# Altium integrated library Zynq-7000.IntLib: 45 symbols (part 15 of 17)
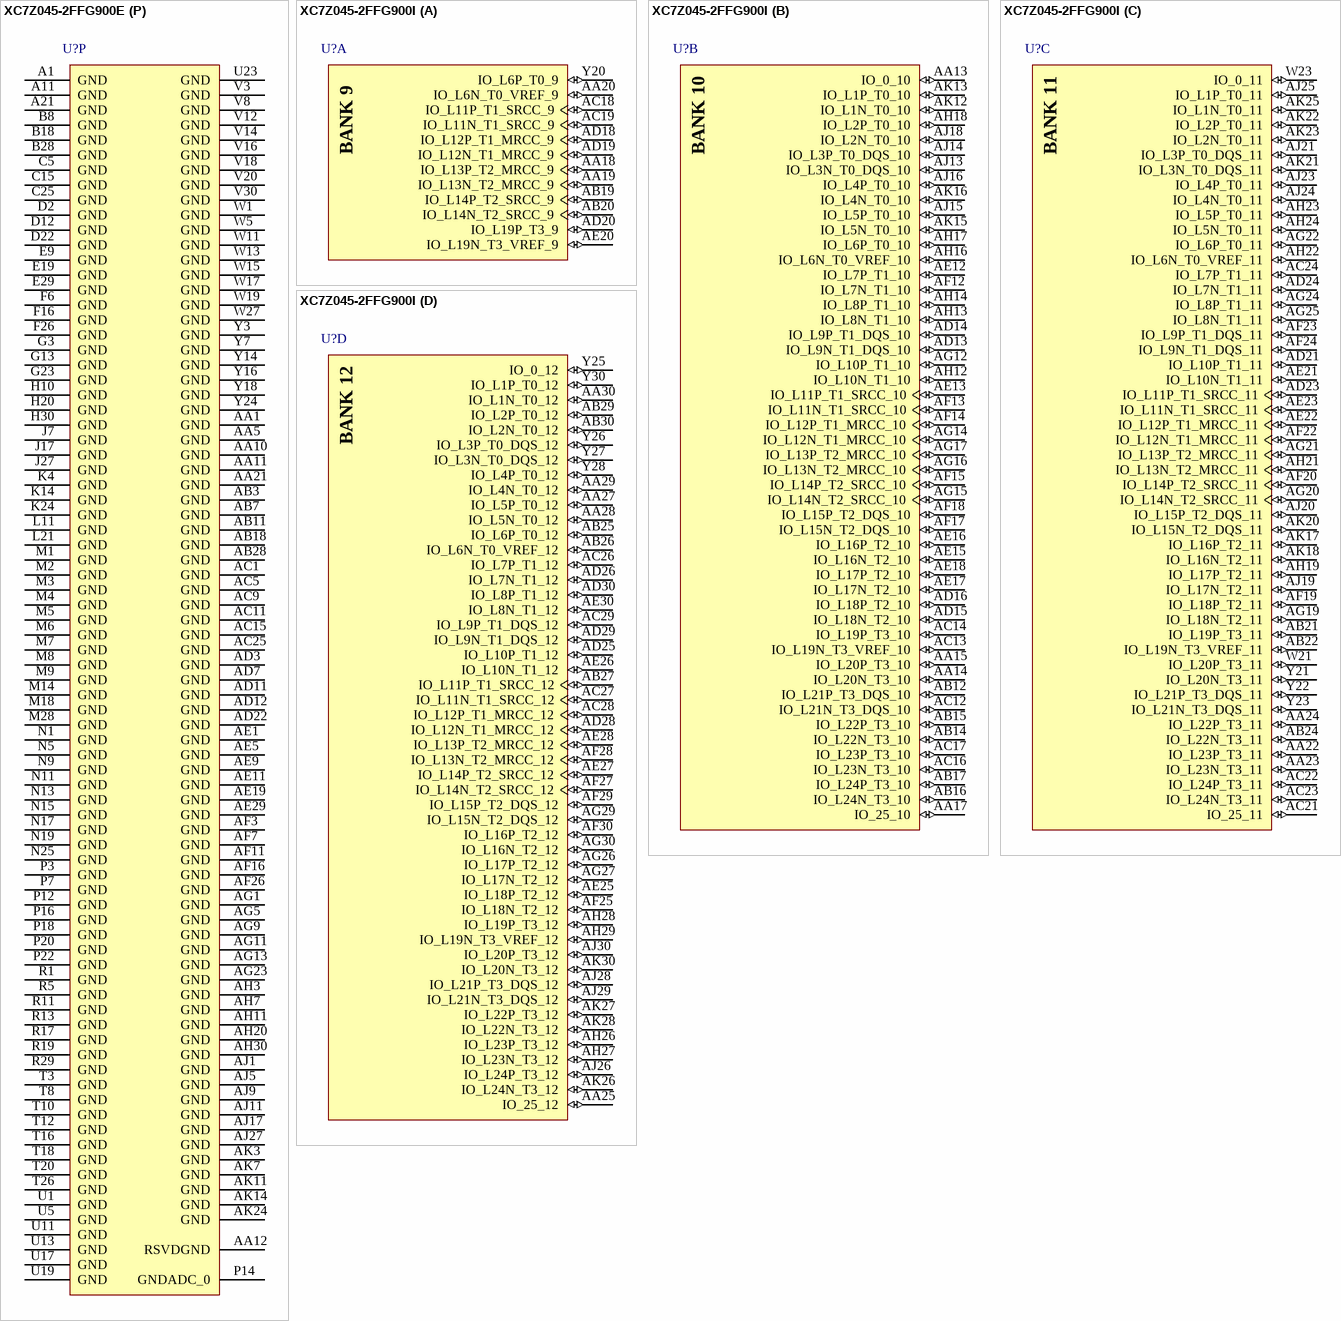
[diagram p109: symbols XC7Z045-2FFG900E to XC7Z045-2FFG900I]

## XC7Z045-2FFG900E
designator U?
733 MHz Zynq™-7000 AP SoC, 130 PS I/O, 378 FPGA I/O, 900-Ball BGA, Speed Grade 2, Extended Grade, Pb-Free; Generic Part Number: XC7Z045; Manufacturer: Xilinx; PartNumber: XC7Z045-2FFG900E; Extensible Block RAM (# 36Kb Blocks): 2180 KB (545); Flip Flops: 437200; LUTs: 218600; Speed Grade: -2; DatasheetVersion: v1.2; PackageVersion: Rev 1.1; PackageReference: FFG900; PackageDescription: Flip-Chip BGA, Body 31 x 31 mm, 1.0 mm Pitch; RoHS: Pb-Free; Mounting Technology: Surface Mount; Code_JEDEC: MS-034-AAN-1; ComponentLink1Description: Datasheet; ComponentLink1URL: http://www.xilinx.com/support/documentation/data_sheets/ds190-Zynq-7000-Overview.pdf; ComponentLink2Description: Package Specification; ComponentLink2URL: http://www.xilinx.com/support/documentation/user_guides/ug865-Zynq-7000-Pkg-Pinout.pdf; ComponentLink3Description: DC and AC Switching Characteristics; ComponentLink3URL: http://www.xilinx.com/support/documentation/data_sheets/ds191-XC7Z030-XC7Z045-data-sheet.pdf; ComponentLink4Description: Package File; ComponentLink4URL: http://www.xilinx.com/support/packagefiles/z7packages/xc7z045ffg900pkg.txt; ComponentLink5Description: Packaging and Pinout; ComponentLink5URL: http://www.xilinx.com/support/documentation/user_guides/ug865-Zynq-7000-Pkg-Pinout.pdf; ComponentLink6Description: PCB and Layout Guide; ComponentLink6URL: http://www.xilinx.com/support/documentation/user_guides/ug483_7Series_PCB.pdf
footprint FFG900 (BGA, 900-Balls, Body 31x31mm, Pitch 1mm)
part A pins: AA18 IO_L13P_T2_MRCC_9 (io), AA19 IO_L13N_T2_MRCC_9 (io), AA20 IO_L6N_T0_VREF_9 (io), AB19 IO_L14P_T2_SRCC_9 (io), AB20 IO_L14N_T2_SRCC_9 (io), AC18 IO_L11P_T1_SRCC_9 (io), AC19 IO_L11N_T1_SRCC_9 (io), AD18 IO_L12P_T1_MRCC_9 (io), AD19 IO_L12N_T1_MRCC_9 (io), AD20 IO_L19P_T3_9 (io), AE20 IO_L19N_T3_VREF_9 (io), Y20 IO_L6P_T0_9 (io)
part B pins: AA13 IO_0_10 (io), AA14 IO_L20N_T3_10 (io), AA15 IO_L20P_T3_10 (io), AA17 IO_25_10 (io), AB12 IO_L21P_T3_DQS_10 (io), AB14 IO_L22N_T3_10 (io), AB15 IO_L22P_T3_10 (io), AB16 IO_L24N_T3_10 (io), AB17 IO_L24P_T3_10 (io), AC12 IO_L21N_T3_DQS_10 (io), AC13 IO_L19N_T3_VREF_10 (io), AC14 IO_L19P_T3_10 (io), AC16 IO_L23N_T3_10 (io), AC17 IO_L23P_T3_10 (io), AD13 IO_L9N_T1_DQS_10 (io), AD14 IO_L9P_T1_DQS_10 (io), AD15 IO_L18N_T2_10 (io), AD16 IO_L18P_T2_10 (io), AE12 IO_L7P_T1_10 (io), AE13 IO_L11P_T1_SRCC_10 (io), AE15 IO_L16N_T2_10 (io), AE16 IO_L16P_T2_10 (io), AE17 IO_L17N_T2_10 (io), AE18 IO_L17P_T2_10 (io), AF12 IO_L7N_T1_10 (io), AF13 IO_L11N_T1_SRCC_10 (io), AF14 IO_L12P_T1_MRCC_10 (io), AF15 IO_L14P_T2_SRCC_10 (io), AF17 IO_L15N_T2_DQS_10 (io), AF18 IO_L15P_T2_DQS_10 (io), AG12 IO_L10P_T1_10 (io), AG14 IO_L12N_T1_MRCC_10 (io), AG15 IO_L14N_T2_SRCC_10 (io), AG16 IO_L13N_T2_MRCC_10 (io), AG17 IO_L13P_T2_MRCC_10 (io), AH12 IO_L10N_T1_10 (io), AH13 IO_L8N_T1_10 (io), AH14 IO_L8P_T1_10 (io), AH16 IO_L6N_T0_VREF_10 (io), AH17 IO_L6P_T0_10 (io), AH18 IO_L2P_T0_10 (io), AJ13 IO_L3N_T0_DQS_10 (io), AJ14 IO_L3P_T0_DQS_10 (io), AJ15 IO_L5P_T0_10 (io), AJ16 IO_L4P_T0_10 (io), AJ18 IO_L2N_T0_10 (io), AK12 IO_L1N_T0_10 (io), AK13 IO_L1P_T0_10 (io), AK15 IO_L5N_T0_10 (io), AK16 IO_L4N_T0_10 (io)
part C pins: AA22 IO_L23P_T3_11 (io), AA23 IO_L23N_T3_11 (io), AA24 IO_L22P_T3_11 (io), AB21 IO_L19P_T3_11 (io), AB22 IO_L19N_T3_VREF_11 (io), AB24 IO_L22N_T3_11 (io), AC21 IO_25_11 (io), AC22 IO_L24P_T3_11 (io), AC23 IO_L24N_T3_11 (io), AC24 IO_L7P_T1_11 (io), AD21 IO_L10P_T1_11 (io), AD23 IO_L11P_T1_SRCC_11 (io), AD24 IO_L7N_T1_11 (io), AE21 IO_L10N_T1_11 (io), AE22 IO_L12P_T1_MRCC_11 (io), AE23 IO_L11N_T1_SRCC_11 (io), AF19 IO_L18P_T2_11 (io), AF20 IO_L14P_T2_SRCC_11 (io), AF22 IO_L12N_T1_MRCC_11 (io), AF23 IO_L9P_T1_DQS_11 (io), AF24 IO_L9N_T1_DQS_11 (io), AG19 IO_L18N_T2_11 (io), AG20 IO_L14N_T2_SRCC_11 (io), AG21 IO_L13P_T2_MRCC_11 (io), AG22 IO_L6P_T0_11 (io), AG24 IO_L8P_T1_11 (io), AG25 IO_L8N_T1_11 (io), AH19 IO_L17P_T2_11 (io), AH21 IO_L13N_T2_MRCC_11 (io), AH22 IO_L6N_T0_VREF_11 (io), AH23 IO_L5P_T0_11 (io), AH24 IO_L5N_T0_11 (io), AJ19 IO_L17N_T2_11 (io), AJ20 IO_L15P_T2_DQS_11 (io), AJ21 IO_L3P_T0_DQS_11 (io), AJ23 IO_L4P_T0_11 (io), AJ24 IO_L4N_T0_11 (io), AJ25 IO_L1P_T0_11 (io), AK17 IO_L16P_T2_11 (io), AK18 IO_L16N_T2_11 (io), AK20 IO_L15N_T2_DQS_11 (io), AK21 IO_L3N_T0_DQS_11 (io), AK22 IO_L2P_T0_11 (io), AK23 IO_L2N_T0_11 (io), AK25 IO_L1N_T0_11 (io), W21 IO_L20P_T3_11 (io), W23 IO_0_11 (io), Y21 IO_L20N_T3_11 (io), Y22 IO_L21P_T3_DQS_11 (io), Y23 IO_L21N_T3_DQS_11 (io)
part D pins: AA25 IO_25_12 (io), AA27 IO_L5P_T0_12 (io), AA28 IO_L5N_T0_12 (io), AA29 IO_L4N_T0_12 (io), AA30 IO_L1N_T0_12 (io), AB25 IO_L6P_T0_12 (io), AB26 IO_L6N_T0_VREF_12 (io), AB27 IO_L11P_T1_SRCC_12 (io), AB29 IO_L2P_T0_12 (io), AB30 IO_L2N_T0_12 (io), AC26 IO_L7P_T1_12 (io), AC27 IO_L11N_T1_SRCC_12 (io), AC28 IO_L12P_T1_MRCC_12 (io), AC29 IO_L9P_T1_DQS_12 (io), AD25 IO_L10P_T1_12 (io), AD26 IO_L7N_T1_12 (io), AD28 IO_L12N_T1_MRCC_12 (io), AD29 IO_L9N_T1_DQS_12 (io), AD30 IO_L8P_T1_12 (io), AE25 IO_L18P_T2_12 (io), AE26 IO_L10N_T1_12 (io), AE27 IO_L14P_T2_SRCC_12 (io), AE28 IO_L13P_T2_MRCC_12 (io), AE30 IO_L8N_T1_12 (io), AF25 IO_L18N_T2_12 (io), AF27 IO_L14N_T2_SRCC_12 (io), AF28 IO_L13N_T2_MRCC_12 (io), AF29 IO_L15P_T2_DQS_12 (io), AF30 IO_L16P_T2_12 (io), AG26 IO_L17P_T2_12 (io), AG27 IO_L17N_T2_12 (io), AG29 IO_L15N_T2_DQS_12 (io), AG30 IO_L16N_T2_12 (io), AH26 IO_L23P_T3_12 (io), AH27 IO_L23N_T3_12 (io), AH28 IO_L19P_T3_12 (io), AH29 IO_L19N_T3_VREF_12 (io), AJ26 IO_L24P_T3_12 (io), AJ28 IO_L21P_T3_DQS_12 (io), AJ29 IO_L21N_T3_DQS_12 (io), AJ30 IO_L20P_T3_12 (io), AK26 IO_L24N_T3_12 (io), AK27 IO_L22P_T3_12 (io), AK28 IO_L22N_T3_12 (io), AK30 IO_L20N_T3_12 (io), Y25 IO_0_12 (io), Y26 IO_L3P_T0_DQS_12 (io), Y27 IO_L3N_T0_DQS_12 (io), Y28 IO_L4P_T0_12 (io), Y30 IO_L1P_T0_12 (io)
part E pins: N26 IO_L15P_T2_DQS_13 (io), N27 IO_L15N_T2_DQS_13 (io), N28 IO_L3P_T0_DQS_13 (io), N29 IO_L4P_T0_13 (io), P21 IO_L19P_T3_13 (io), P23 IO_L18P_T2_13 (io), P24 IO_L18N_T2_13 (io), P25 IO_L16P_T2_13 (io), P26 IO_L16N_T2_13 (io), P28 IO_L3N_T0_DQS_13 (io), P29 IO_L4N_T0_13 (io), P30 IO_L1P_T0_13 (io), R21 IO_L19N_T3_VREF_13 (io), R22 IO_L21P_T3_DQS_13 (io), R23 IO_L21N_T3_DQS_13 (io), R25 IO_L13P_T2_MRCC_13 (io), R26 IO_L13N_T2_MRCC_13 (io), R27 IO_L14P_T2_SRCC_13 (io), R28 IO_L6P_T0_13 (io), R30 IO_L1N_T0_13 (io), T22 IO_L20P_T3_13 (io), T23 IO_L20N_T3_13 (io), T24 IO_L17P_T2_13 (io), T25 IO_L17N_T2_13 (io), T27 IO_L14N_T2_SRCC_13 (io), T28 IO_L6N_T0_VREF_13 (io), T29 IO_L5P_T0_13 (io), T30 IO_L2P_T0_13 (io), U21 IO_0_13 (io), U22 IO_L22P_T3_13 (io), U24 IO_L23P_T3_13 (io), U25 IO_L11P_T1_SRCC_13 (io), U26 IO_L12P_T1_MRCC_13 (io), U27 IO_L12N_T1_MRCC_13 (io), U29 IO_L5N_T0_13 (io), U30 IO_L2N_T0_13 (io), V21 IO_25_13 (io), V22 IO_L22N_T3_13 (io), V23 IO_L24P_T3_13 (io), V24 IO_L23N_T3_13 (io), V26 IO_L11N_T1_SRCC_13 (io), V27 IO_L9P_T1_DQS_13 (io), V28 IO_L7P_T1_13 (io), V29 IO_L7N_T1_13 (io), W24 IO_L24N_T3_13 (io), W25 IO_L10P_T1_13 (io), W26 IO_L10N_T1_13 (io), W28 IO_L9N_T1_DQS_13 (io), W29 IO_L8P_T1_13 (io), W30 IO_L8N_T1_13 (io)
part F pins: A2 IO_L24N_T3_33 (io), A3 IO_L24P_T3_33 (io), A4 IO_L21N_T3_DQS_33 (io), A5 IO_L21P_T3_DQS_33 (io), B1 IO_L23N_T3_33 (io), B2 IO_L23P_T3_33 (io), B4 IO_L20N_T3_33 (io), B5 IO_L20P_T3_33 (io), C1 IO_L22N_T3_33 (io), C2 IO_L22P_T3_33 (io), C3 IO_L19N_T3_VREF_33 (io), C4 IO_L19P_T3_33 (io), D1 IO_L18N_T2_33 (io), D3 IO_L16N_T2_33 (io), D4 IO_L16P_T2_33 (io), D5 IO_L15N_T2_DQS_33 (io), E1 IO_L18P_T2_33 (io), E2 IO_L17N_T2_33 (io), E3 IO_L17P_T2_33 (io), E5 IO_L13N_T2_MRCC_33 (io), E6 IO_L15P_T2_DQS_33 (io), F2 IO_L7N_T1_33 (io), F3 IO_L14N_T2_SRCC_33 (io), F4 IO_L14P_T2_SRCC_33 (io), F5 IO_L13P_T2_MRCC_33 (io), G1 IO_L10N_T1_33 (io), G2 IO_L7P_T1_33 (io), G4 IO_L12N_T1_MRCC_33 (io), G5 IO_L12P_T1_MRCC_33 (io), G6 IO_L8N_T1_33 (io), H1 IO_L9N_T1_DQS_33 (io), H2 IO_L10P_T1_33 (io), H3 IO_L11N_T1_SRCC_33 (io), H4 IO_L11P_T1_SRCC_33 (io), H6 IO_L8P_T1_33 (io), J1 IO_L9P_T1_DQS_33 (io), J3 IO_L1N_T0_33 (io), J4 IO_L1P_T0_33 (io), J5 IO_L5N_T0_33 (io), J6 IO_L6N_T0_VREF_33 (io), K1 IO_L2N_T0_33 (io), K2 IO_L3N_T0_DQS_33 (io), K3 IO_L3P_T0_DQS_33 (io), K5 IO_L5P_T0_33 (io), K6 IO_L6P_T0_33 (io), L1 IO_L2P_T0_33 (io), L2 IO_L4N_T0_33 (io), L3 IO_L4P_T0_33 (io), L4 IO_25_VRP_33 (io), L5 IO_0_VRN_33 (io)
part G pins: A7 IO_L3N_T0_DQS_34 (io), A8 IO_L3P_T0_DQS_PUDC_B_34 (io), A9 IO_L2N_T0_34 (io), A10 IO_L1N_T0_34 (io), B6 IO_L5N_T0_34 (io), B7 IO_L4N_T0_34 (io), B9 IO_L2P_T0_34 (io), B10 IO_L1P_T0_34 (io), C6 IO_L5P_T0_34 (io), C7 IO_L4P_T0_34 (io), C8 IO_L6N_T0_VREF_34 (io), C9 IO_L6P_T0_34 (io), D6 IO_L17N_T2_34 (io), D8 IO_L12N_T1_MRCC_34 (io), D9 IO_L12P_T1_MRCC_34 (io), D10 IO_L10N_T1_34 (io), D11 IO_L8N_T1_34 (io), E7 IO_L17P_T2_34 (io), E8 IO_L14N_T2_SRCC_34 (io), E10 IO_L10P_T1_34 (io), E11 IO_L8P_T1_34 (io), F7 IO_L16N_T2_34 (io), F8 IO_L16P_T2_34 (io), F9 IO_L14P_T2_SRCC_34 (io), F10 IO_L11N_T1_SRCC_34 (io), G7 IO_L18N_T2_34 (io), G9 IO_L13N_T2_MRCC_34 (io), G10 IO_L11P_T1_SRCC_34 (io), G11 IO_L9N_T1_DQS_34 (io), H7 IO_L18P_T2_34 (io), H8 IO_L15N_T2_DQS_34 (io), H9 IO_L13P_T2_MRCC_34 (io), H11 IO_L7N_T1_34 (io), H12 IO_L9P_T1_DQS_34 (io), J8 IO_L15P_T2_DQS_34 (io), J9 IO_L20N_T3_34 (io), J10 IO_L20P_T3_34 (io), J11 IO_L7P_T1_34 (io), K7 IO_L19N_T3_VREF_34 (io), K8 IO_L21N_T3_DQS_34 (io), K10 IO_L22N_T3_34 (io), K11 IO_L22P_T3_34 (io), K12 IO_L24N_T3_34 (io), L7 IO_L19P_T3_34 (io), L8 IO_L21P_T3_DQS_34 (io), L9 IO_L23N_T3_34 (io), L10 IO_L23P_T3_34 (io), L12 IO_L24P_T3_34 (io), M10 IO_25_VRP_34 (io), M12 IO_0_VRN_34 (io)
part H pins: A12 IO_L24N_T3_AD15N_35 (io), A13 IO_L24P_T3_AD15P_35 (io), A14 IO_L23N_T3_35 (io), A15 IO_L21N_T3_DQS_AD14N_35 (io), A17 IO_L18N_T2_AD13N_35 (io), B11 IO_L22N_T3_AD7N_35 (io), B12 IO_L20N_T3_AD6N_35 (io), B14 IO_L23P_T3_35 (io), B15 IO_L21P_T3_DQS_AD14P_35 (io), B16 IO_L17N_T2_AD5N_35 (io), B17 IO_L18P_T2_AD13P_35 (io), C11 IO_L22P_T3_AD7P_35 (io), C12 IO_L20P_T3_AD6P_35 (io), C13 IO_L19N_T3_VREF_35 (io), C14 IO_L19P_T3_35 (io), C16 IO_L16N_T2_35 (io), C17 IO_L17P_T2_AD5P_35 (io), D13 IO_L11N_T1_SRCC_35 (io), D14 IO_L14N_T2_AD4N_SRCC_35 (io), D15 IO_L14P_T2_AD4P_SRCC_35 (io), D16 IO_L16P_T2_35 (io), E12 IO_L10N_T1_AD11N_35 (io), E13 IO_L11P_T1_SRCC_35 (io), E15 IO_L13N_T2_MRCC_35 (io), E16 IO_L13P_T2_MRCC_35 (io), E17 IO_L15N_T2_DQS_AD12N_35 (io), F12 IO_L9N_T1_DQS_AD3N_35 (io), F13 IO_L10P_T1_AD11P_35 (io), F14 IO_L12N_T1_MRCC_35 (io), F15 IO_L12P_T1_MRCC_35 (io), F17 IO_L15P_T2_DQS_AD12P_35 (io), G12 IO_L9P_T1_DQS_AD3P_35 (io), G14 IO_L8N_T1_AD10N_35 (io), G15 IO_L8P_T1_AD10P_35 (io), G16 IO_L7N_T1_AD2N_35 (io), G17 IO_L7P_T1_AD2P_35 (io), H13 IO_L2N_T0_AD8N_35 (io), H14 IO_L4N_T0_35 (io), H16 IO_L6N_T0_VREF_35 (io), J13 IO_L2P_T0_AD8P_35 (io), J14 IO_L4P_T0_35 (io), J15 IO_L5N_T0_AD9N_35 (io), J16 IO_L6P_T0_35 (io), K13 IO_L3N_T0_DQS_AD1N_35 (io), K15 IO_L5P_T0_AD9P_35 (io), K16 IO_0_VRN_35 (io), L13 IO_L3P_T0_DQS_AD1P_35 (io), L14 IO_L1N_T0_AD0N_35 (io), L15 IO_L1P_T0_AD0P_35 (io), M16 IO_25_VRP_35 (io)
part I pins: AA9 DONE_0 (io), P10 TDI_0 (in), R14 VREFN_0 (in), R15 VP_0 (in), T14 VN_0 (in), T15 VREFP_0 (in), U14 DXN_0 (in), U15 DXP_0 (in), V9 CFGBVS_0 (in), V10 TMS_0 (in), W9 INIT_B_0 (io), Y9 PROGRAM_B_0 (in), Y10 TDO_0 (out), Y12 TCK_0 (in)
part J pins: A18 PS_MIO47_501 (io), A19 PS_MIO50_501 (io), A20 PS_MIO38_501 (io), A22 PS_CLK_500 (in), A23 PS_MIO11_500 (io), A24 PS_MIO9_500 (io), B19 PS_SRST_B_501 (in), B20 PS_MIO40_501 (io), B21 PS_MIO37_501 (io), B22 PS_MIO14_500 (io), B24 PS_MIO7_500 (io), C18 PS_MIO53_501 (io), C19 PS_MIO48_501 (io), C21 PS_MIO8_500 (io), C22 PS_MIO15_500 (io), C23 PS_MIO3_500 (io), C24 PS_MIO5_500 (io), D18 PS_MIO49_501 (io), D19 PS_MIO52_501 (io), D20 PS_MIO42_501 (io), D21 PS_POR_B_500 (in), D23 PS_MIO1_500 (io), D24 PS_MIO6_500 (io), E18 PS_MIO43_501 (io), E20 PS_MIO44_501 (io), E21 PS_MIO12_500 (io), E22 PS_MIO10_500 (io), E23 PS_MIO4_500 (io), F18 PS_MIO39_501 (io), F19 PS_MIO51_501 (io), F20 PS_MIO46_501 (io), F22 PS_MIO13_500 (io), F23 PS_MIO2_500 (io), F24 PS_MIO0_500 (io), G19 PS_MIO25_501 (io), G20 PS_MIO27_501 (io), G21 PS_MIO35_501 (io), G22 PS_MIO33_501 (io), H17 PS_MIO36_501 (io), H18 PS_MIO45_501 (io), H19 PS_MIO_VREF_501 (in), H21 PS_MIO31_501 (io), H22 PS_MIO29_501 (io), J18 PS_MIO41_501 (io), J19 PS_MIO21_501 (io), J20 PS_MIO19_501 (io), J21 PS_MIO23_501 (io), K17 PS_MIO32_501 (io), K18 PS_MIO34_501 (io), K20 PS_MIO18_501 (io), K21 PS_MIO17_501 (io), L17 PS_MIO28_501 (io), L18 PS_MIO30_501 (io), L19 PS_MIO16_501 (io), L20 PS_MIO22_501 (io), M17 PS_MIO26_501 (io), M19 PS_MIO24_501 (io), M20 PS_MIO20_501 (io)
part K pins: A25 PS_DDR_DQ0_502 (io), A27 PS_DDR_DQ9_502 (io), A28 PS_DDR_DQ11_502 (io), A29 PS_DDR_DQ8_502 (io), A30 PS_DDR_DQ10_502 (io), B25 PS_DDR_DQ4_502 (io), B26 PS_DDR_DQS_N0_502 (io), B27 PS_DDR_DQ2_502 (io), B29 PS_DDR_DQS_N1_502 (io), B30 PS_DDR_DM1_502 (out), C26 PS_DDR_DQS_P0_502 (io), C27 PS_DDR_DM0_502 (out), C28 PS_DDR_DQ12_502 (io), C29 PS_DDR_DQS_P1_502 (io), D25 PS_DDR_DQ3_502 (io), D26 PS_DDR_DQ6_502 (io), D28 PS_DDR_DQ14_502 (io), D29 PS_DDR_DQ15_502 (io), D30 PS_DDR_DQ13_502 (io), E25 PS_DDR_DQ1_502 (io), E26 PS_DDR_DQ5_502 (io), E27 PS_DDR_DQ7_502 (io), E28 PS_DDR_DQ19_502 (io), E30 PS_DDR_DQ20_502 (io), F25 PS_DDR_DRST_B_502 (out), F27 PS_DDR_A8_502 (out), F28 PS_DDR_DQ21_502 (io), F29 PS_DDR_DQS_N2_502 (io), F30 PS_DDR_DQ23_502 (io), G24 PS_DDR_A5_502 (out), G25 PS_DDR_A3_502 (out), G26 PS_DDR_A10_502 (out), G27 PS_DDR_DQ17_502 (io), G29 PS_DDR_DQS_P2_502 (io), G30 PS_DDR_DQ22_502 (io), H23 PS_DDR_A13_502 (out), H24 PS_DDR_A11_502 (out), H26 PS_DDR_A6_502 (out), H27 PS_DDR_DQ16_502 (io), H28 PS_DDR_DQ18_502 (io), H29 PS_DDR_DM2_502 (out), J23 PS_DDR_A9_502 (out), J24 PS_DDR_A14_502 (out), J25 PS_DDR_CKN_502 (out), J26 PS_DDR_A4_502 (out), J28 PS_DDR_DQ27_502 (io), J29 PS_DDR_DQ24_502 (io), J30 PS_DDR_DQ26_502 (io), K22 PS_DDR_A7_502 (out), K23 PS_DDR_A12_502 (out), K25 PS_DDR_CKP_502 (out), K26 PS_DDR_A1_502 (out), K27 PS_DDR_DQ25_502 (io), K28 PS_DDR_DM3_502 (out), K30 PS_DDR_DQ28_502 (io), L22 PS_DDR_VREF0_502 (in), L23 PS_DDR_ODT_502 (out), L24 PS_DDR_VREF1_502 (in), L25 PS_DDR_A0_502 (out), L27 PS_DDR_A2_502 (out), L28 PS_DDR_DQS_P3_502 (io), L29 PS_DDR_DQS_N3_502 (io), L30 PS_DDR_DQ30_502 (io), M21 PS_DDR_VRP_502 (out), M22 PS_DDR_CKE_502 (out), M24 PS_DDR_CAS_B_502 (out), M25 PS_DDR_BA2_502 (out), M26 PS_DDR_BA1_502 (out), M27 PS_DDR_BA0_502 (out), M29 PS_DDR_DQ29_502 (io), M30 PS_DDR_DQ31_502 (io), N21 PS_DDR_VRN_502 (out), N22 PS_DDR_CS_B_502 (out), N23 PS_DDR_WE_B_502 (out), N24 PS_DDR_RAS_B_502 (out)
part L pins: AA3 MGTXRXN3_111 (in), AA4 MGTXRXP3_111 (in), AA7 MGTREFCLK0N_110 (in), AA8 MGTREFCLK0P_110 (in), AB1 MGTXTXN0_111 (out), AB2 MGTXTXP0_111 (out), AB5 MGTXRXN1_111 (in), AB6 MGTXRXP1_111 (in), AB9 MGTRREF_112 (in), AB10 MGTAVTTRCAL_112, AC3 MGTXRXN0_111 (in), AC4 MGTXRXP0_111 (in), AC7 MGTREFCLK1N_110 (in), AC8 MGTREFCLK1P_110 (in), AD1 MGTXTXN3_110 (out), AD2 MGTXTXP3_110 (out), AD5 MGTXRXN3_110 (in), AD6 MGTXRXP3_110 (in), AD9 MGTREFCLK0N_109 (in), AD10 MGTREFCLK0P_109 (in), AE3 MGTXTXN2_110 (out), AE4 MGTXTXP2_110 (out), AE7 MGTXRXN3_109 (in), AE8 MGTXRXP3_109 (in), AF1 MGTXTXN1_110 (out), AF2 MGTXTXP1_110 (out), AF5 MGTXRXN2_110 (in), AF6 MGTXRXP2_110 (in), AF9 MGTREFCLK1N_109 (in), AF10 MGTREFCLK1P_109 (in), AG3 MGTXRXN1_110 (in), AG4 MGTXRXP1_110 (in), AG7 MGTXRXN2_109 (in), AG8 MGTXRXP2_109 (in), AH1 MGTXTXN0_110 (out), AH2 MGTXTXP0_110 (out), AH5 MGTXRXN0_110 (in), AH6 MGTXRXP0_110 (in), AH9 MGTXRXN0_109 (in), AH10 MGTXRXP0_109 (in), AJ3 MGTXTXN2_109 (out), AJ4 MGTXTXP2_109 (out), AJ7 MGTXRXN1_109 (in), AJ8 MGTXRXP1_109 (in), AK1 MGTXTXN3_109 (out), AK2 MGTXTXP3_109 (out), AK5 MGTXTXN1_109 (out), AK6 MGTXTXP1_109 (out), AK9 MGTXTXN0_109 (out), AK10 MGTXTXP0_109 (out), N3 MGTXTXN3_112 (out), N4 MGTXTXP3_112 (out), N7 MGTREFCLK0N_112 (in), N8 MGTREFCLK0P_112 (in), P1 MGTXTXN2_112 (out), P2 MGTXTXP2_112 (out), P5 MGTXRXN3_112 (in), P6 MGTXRXP3_112 (in), R3 MGTXTXN1_112 (out), R4 MGTXTXP1_112 (out), R7 MGTREFCLK1N_112 (in), R8 MGTREFCLK1P_112 (in), T1 MGTXTXN0_112 (out), T2 MGTXTXP0_112 (out), T5 MGTXRXN2_112 (in), T6 MGTXRXP2_112 (in), U3 MGTXRXN1_112 (in), U4 MGTXRXP1_112 (in), U7 MGTREFCLK0N_111 (in), U8 MGTREFCLK0P_111 (in), V1 MGTXTXN3_111 (out), V2 MGTXTXP3_111 (out), V5 MGTXRXN0_112 (in), V6 MGTXRXP0_112 (in), W3 MGTXTXN2_111 (out), W4 MGTXTXP2_111 (out), W7 MGTREFCLK1N_111 (in), W8 MGTREFCLK1P_111 (in), Y1 MGTXTXN1_111 (out), Y2 MGTXTXP1_111 (out), Y5 MGTXRXN2_111 (in), Y6 MGTXRXP2_111 (in)
part M pins: AA2 MGTAVTT (power), AA6 MGTAVCC (power), AB4 MGTAVTT (power), AB8 MGTAVCC (power), AC2 MGTAVTT (power), AC6 MGTAVCC (power), AC10 MGTAVCC (power), AD4 MGTAVTT (power), AD8 MGTAVCC (power), AE2 MGTAVTT (power), AE6 MGTAVCC (power), AE10 MGTAVCC (power), AF4 MGTAVTT (power), AF8 MGTAVCC (power), AG2 MGTAVTT (power), AG6 MGTAVTT (power), AG10 MGTAVCC (power), AH4 MGTAVTT (power), AH8 MGTAVCC (power), AJ2 MGTAVTT (power), AJ6 MGTAVTT (power), AJ10 MGTAVCC (power), AK4 MGTAVTT (power), AK8 MGTAVTT (power), N2 MGTAVTT (power), N6 MGTAVCC (power), P4 MGTAVTT (power), P8 MGTAVCC (power), R2 MGTAVTT (power), R6 MGTAVCC (power), T4 MGTAVTT (power), T7 MGTVCCAUX (power), U2 MGTAVTT (power), U6 MGTAVCC (power), V4 MGTAVTT (power), V7 MGTVCCAUX (power), W2 MGTAVTT (power), W6 MGTAVCC (power), Y4 MGTAVTT (power), Y8 MGTAVCC (power)
part N pins: A6 VCCO_34 (power), A16 VCCO_35 (power), AA16 VCCO_10 (power), AA26 VCCO_12 (power), AB13 VCCO_10 (power), AB23 VCCO_11 (power), AC20 VCCO_9 (power), AC30 VCCO_12 (power), AD17 VCCO_10 (power), AD27 VCCO_12 (power), AE14 VCCO_10 (power), AE24 VCCO_11 (power), AF21 VCCO_11 (power), AG18 VCCO_10 (power), AG28 VCCO_12 (power), AH15 VCCO_10 (power), AH25 VCCO_11 (power), AJ12 VCCO_10 (power), AJ22 VCCO_11 (power), AK19 VCCO_11 (power), AK29 VCCO_12 (power), B3 VCCO_33 (power), B13 VCCO_35 (power), C10 VCCO_34 (power), D7 VCCO_34 (power), D17 VCCO_35 (power), E4 VCCO_33 (power), E14 VCCO_35 (power), F1 VCCO_33 (power), F11 VCCO_34 (power), G8 VCCO_34 (power), H5 VCCO_33 (power), H15 VCCO_35 (power), J2 VCCO_33 (power), J12 VCCO_34 (power), K9 VCCO_34 (power), L6 VCCO_33 (power), L16 VCCO_35 (power), N30 VCCO_13 (power), P27 VCCO_13 (power), R9 RSVDVCC3 (power), R24 VCCO_13 (power), T9 RSVDVCC2 (power), T21 VCCO_13 (power), U9 RSVDVCC1 (power), U28 VCCO_13 (power), V25 VCCO_13 (power), W22 VCCO_11 (power), Y13 VCCO_0 (power), Y15 VCCO_0 (power), Y19 VCCO_9 (power), Y29 VCCO_12 (power)
part O pins: A26 VCCO_DDR_502 (power), B23 VCCO_MIO0_500 (power), C20 VCCO_MIO1_501 (power), C30 VCCO_DDR_502 (power), D27 VCCO_DDR_502 (power), E24 VCCO_MIO0_500 (power), F21 VCCO_MIO0_500 (power), G18 VCCO_MIO1_501 (power), G28 VCCO_DDR_502 (power), H25 VCCO_DDR_502 (power), J22 VCCO_MIO1_501 (power), K19 VCCO_MIO1_501 (power), K29 VCCO_DDR_502 (power), L26 VCCO_DDR_502 (power), M11 VCCAUX (power), M13 VCCINT (power), M15 VCCINT (power), M23 VCCO_DDR_502 (power), N10 VCCAUX (power), N12 VCCINT (power), N14 VCCINT (power), N16 VCCPINT (power), N18 VCCPLL (power), N20 VCCPAUX (power), P9 VCCBATT_0 (power), P11 VCCAUX_IO_G0 (power), P13 VCCINT (power), P15 VCCADC_0 (power), P17 VCCPINT (power), P19 VCCPAUX (power), R10 VCCAUX (power), R12 VCCINT (power), R16 VCCINT (power), R18 VCCPINT (power), R20 VCCPAUX (power), T11 VCCAUX_IO_G0 (power), T13 VCCINT (power), T17 VCCPINT (power), T19 VCCPINT (power), U10 VCCAUX (power), U12 VCCINT (power), U16 VCCINT (power), U18 VCCPINT (power), U20 VCCPAUX (power), V11 VCCAUX_IO_G0 (power), V13 VCCINT (power), V15 VCCINT (power), V17 VCCBRAM (power), V19 VCCBRAM (power), W10 VCCAUX (power), W12 VCCINT (power), W14 VCCINT (power), W16 VCCINT (power), W18 VCCBRAM (power), W20 VCCBRAM (power), Y11 VCCAUX (power), Y17 VCCINT (power)
part P pins: A1 GND (power), A11 GND (power), A21 GND (power), AA1 GND (power), AA5 GND (power), AA10 GND (power), AA11 GND (power), AA12 RSVDGND (power), AA21 GND (power), AB3 GND (power), AB7 GND (power), AB11 GND (power), AB18 GND (power), AB28 GND (power), AC1 GND (power), AC5 GND (power), AC9 GND (power), AC11 GND (power), AC15 GND (power), AC25 GND (power), AD3 GND (power), AD7 GND (power), AD11 GND (power), AD12 GND (power), AD22 GND (power), AE1 GND (power), AE5 GND (power), AE9 GND (power), AE11 GND (power), AE19 GND (power), AE29 GND (power), AF3 GND (power), AF7 GND (power), AF11 GND (power), AF16 GND (power), AF26 GND (power), AG1 GND (power), AG5 GND (power), AG9 GND (power), AG11 GND (power), AG13 GND (power), AG23 GND (power), AH3 GND (power), AH7 GND (power), AH11 GND (power), AH20 GND (power), AH30 GND (power), AJ1 GND (power), AJ5 GND (power), AJ9 GND (power), AJ11 GND (power), AJ17 GND (power), AJ27 GND (power), AK3 GND (power), AK7 GND (power), AK11 GND (power), AK14 GND (power), AK24 GND (power), B8 GND (power), B18 GND (power), B28 GND (power), C5 GND (power), C15 GND (power), C25 GND (power), D2 GND (power), D12 GND (power), D22 GND (power), E9 GND (power), E19 GND (power), E29 GND (power), F6 GND (power), F16 GND (power), F26 GND (power), G3 GND (power), G13 GND (power), G23 GND (power), H10 GND (power), H20 GND (power), H30 GND (power), J7 GND (power), J17 GND (power), J27 GND (power), K4 GND (power), K14 GND (power), K24 GND (power), L11 GND (power), L21 GND (power), M1 GND (power), M2 GND (power), M3 GND (power), M4 GND (power), M5 GND (power), M6 GND (power), M7 GND (power), M8 GND (power), M9 GND (power), M14 GND (power), M18 GND (power), M28 GND (power), N1 GND (power), N5 GND (power), N9 GND (power), N11 GND (power), N13 GND (power), N15 GND (power), N17 GND (power), N19 GND (power), N25 GND (power), P3 GND (power), P7 GND (power), P12 GND (power), P14 GNDADC_0 (power), P16 GND (power), P18 GND (power), P20 GND (power), P22 GND (power), R1 GND (power), R5 GND (power), R11 GND (power), R13 GND (power), R17 GND (power), R19 GND (power), R29 GND (power), T3 GND (power), T8 GND (power), T10 GND (power), T12 GND (power), T16 GND (power), T18 GND (power), T20 GND (power), T26 GND (power), U1 GND (power), U5 GND (power), U11 GND (power), U13 GND (power), U17 GND (power), U19 GND (power), U23 GND (power), V3 GND (power), V8 GND (power), V12 GND (power), V14 GND (power), V16 GND (power), V18 GND (power), V20 GND (power), V30 GND (power), W1 GND (power), W5 GND (power), W11 GND (power), W13 GND (power), W15 GND (power), W17 GND (power), W19 GND (power), W27 GND (power), Y3 GND (power), Y7 GND (power), Y14 GND (power), Y16 GND (power), Y18 GND (power), Y24 GND (power)
part A text: BANK 9
part B text: BANK 10
part C text: BANK 11
part D text: BANK 12
part E text: BANK 13
part F text: BANK 33
part G text: BANK 34
part H text: BANK 35

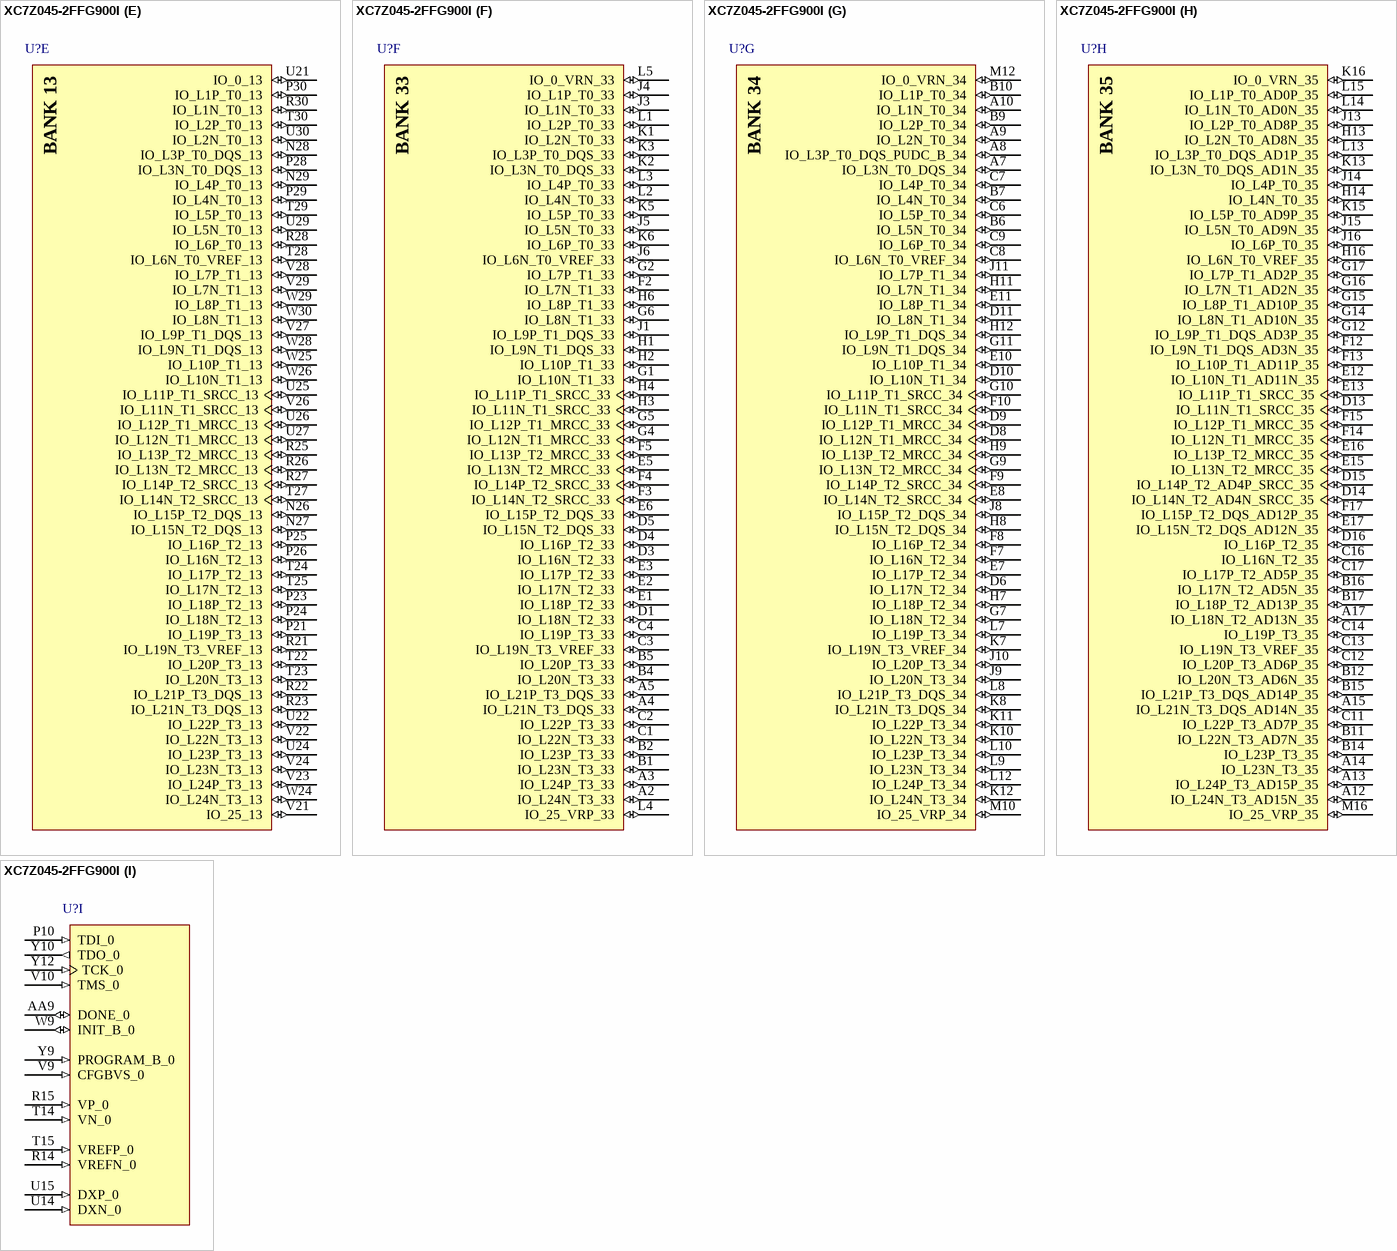
[diagram p85: symbol XC7Z045-2FFG900I]

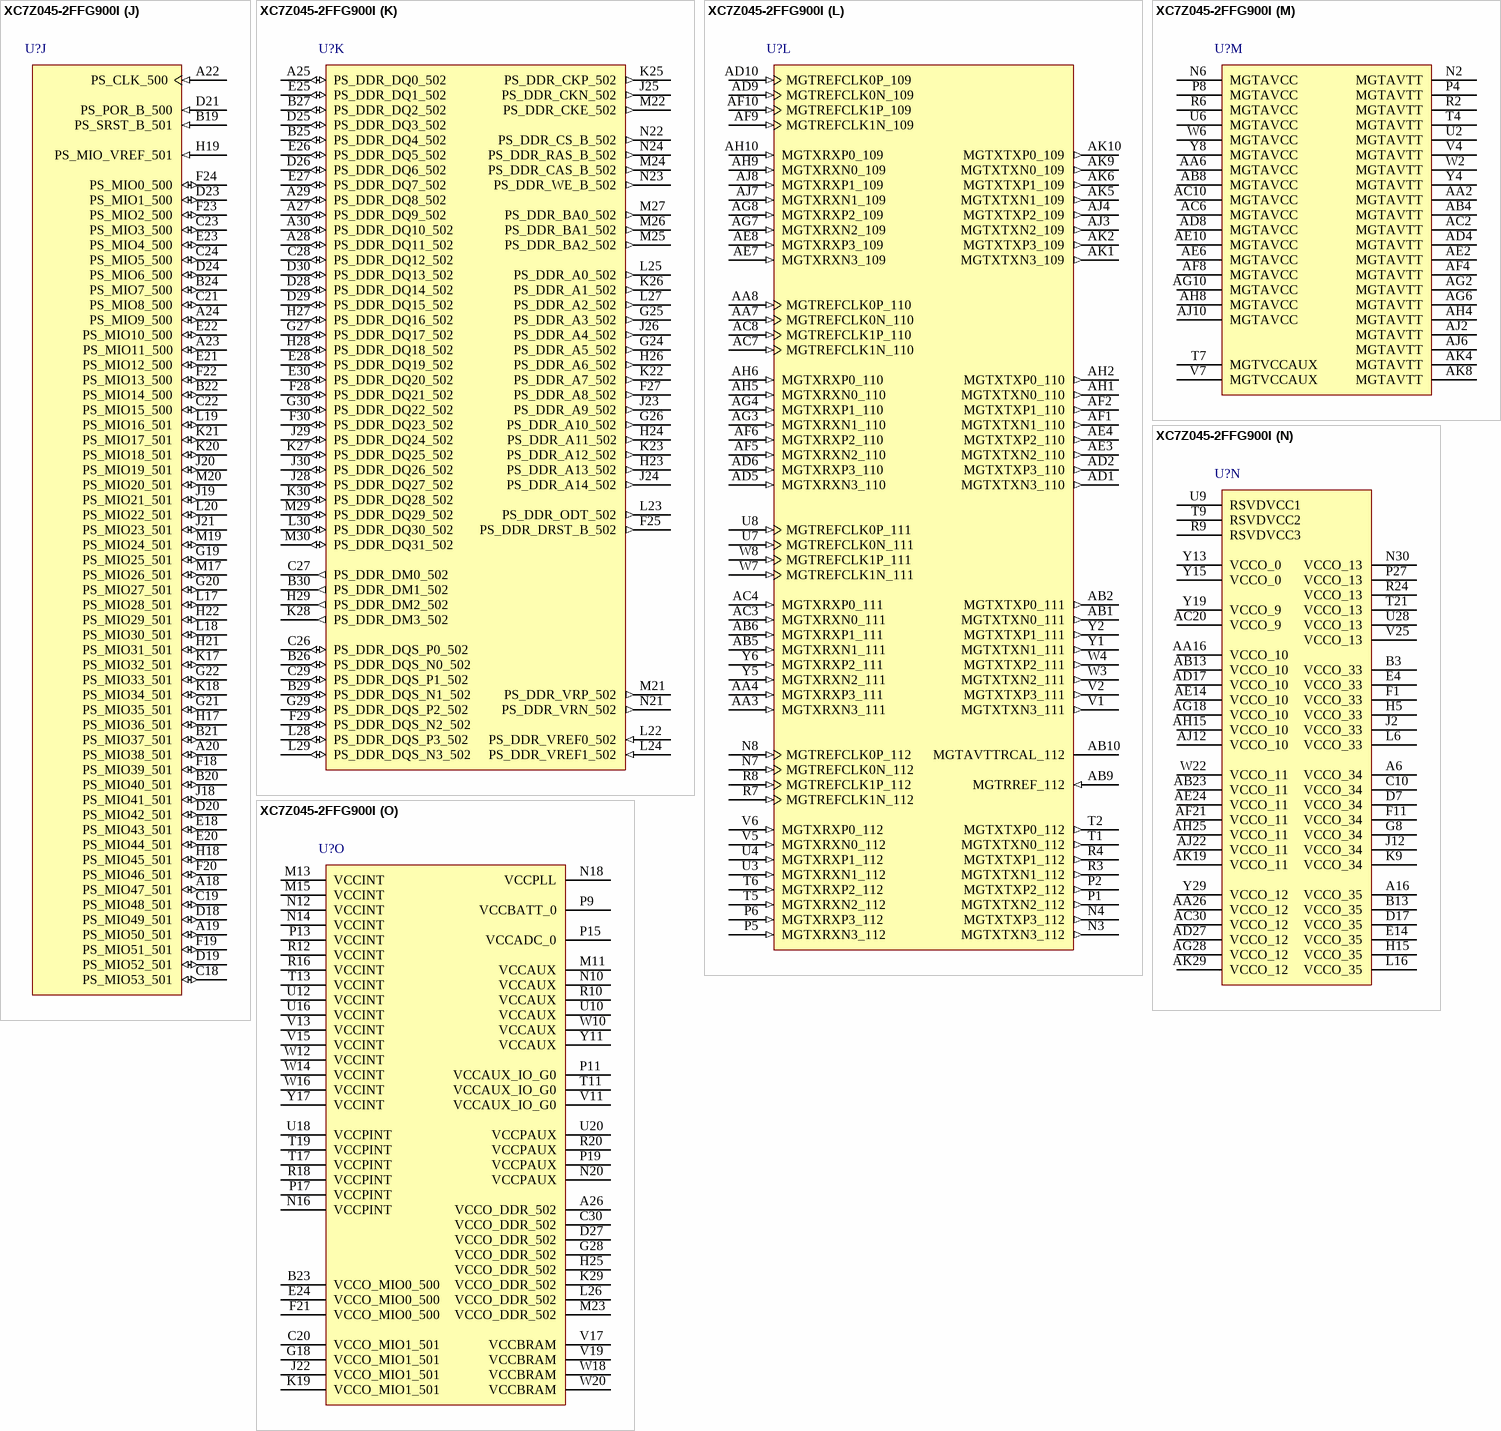
[diagram p86: symbol XC7Z045-2FFG900I]

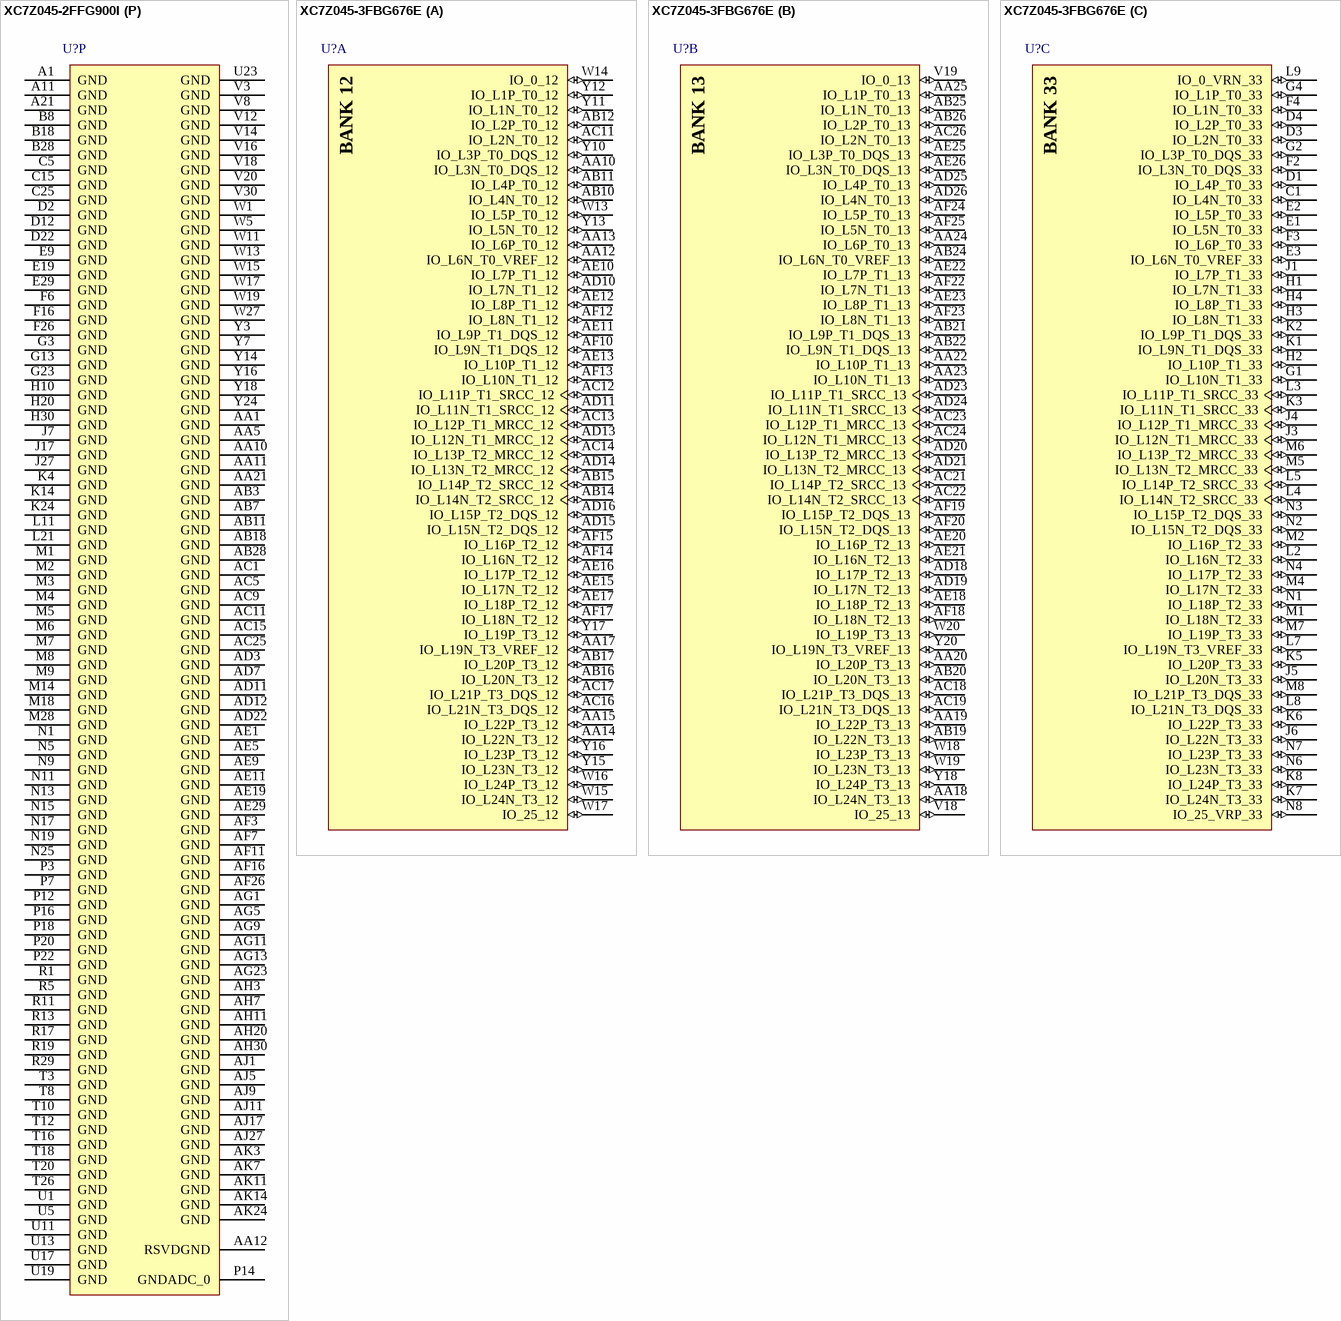
[diagram p87: symbols XC7Z045-2FFG900I to XC7Z045-3FBG676E]

## XC7Z045-2FFG900I
designator U?
733 MHz Zynq™-7000 AP SoC, 130 PS I/O, 378 FPGA I/O, 900-Ball BGA, Speed Grade 2, Industrial Grade, Pb-Free; Generic Part Number: XC7Z045; Manufacturer: Xilinx; PartNumber: XC7Z045-2FFG900I; Extensible Block RAM (# 36Kb Blocks): 2180 KB (545); Flip Flops: 437200; LUTs: 218600; Speed Grade: -2; DatasheetVersion: v1.2; PackageVersion: Rev 1.1; PackageReference: FFG900; PackageDescription: Flip-Chip BGA, Body 31 x 31 mm, 1.0 mm Pitch; RoHS: Pb-Free; Mounting Technology: Surface Mount; Code_JEDEC: MS-034-AAN-1; ComponentLink1Description: Datasheet; ComponentLink1URL: http://www.xilinx.com/support/documentation/data_sheets/ds190-Zynq-7000-Overview.pdf; ComponentLink2Description: Package Specification; ComponentLink2URL: http://www.xilinx.com/support/documentation/user_guides/ug865-Zynq-7000-Pkg-Pinout.pdf; ComponentLink3Description: DC and AC Switching Characteristics; ComponentLink3URL: http://www.xilinx.com/support/documentation/data_sheets/ds191-XC7Z030-XC7Z045-data-sheet.pdf; ComponentLink4Description: Package File; ComponentLink4URL: http://www.xilinx.com/support/packagefiles/z7packages/xc7z045ffg900pkg.txt; ComponentLink5Description: Packaging and Pinout; ComponentLink5URL: http://www.xilinx.com/support/documentation/user_guides/ug865-Zynq-7000-Pkg-Pinout.pdf; ComponentLink6Description: PCB and Layout Guide; ComponentLink6URL: http://www.xilinx.com/support/documentation/user_guides/ug483_7Series_PCB.pdf
footprint FFG900 (BGA, 900-Balls, Body 31x31mm, Pitch 1mm)
part A pins: AA18 IO_L13P_T2_MRCC_9 (io), AA19 IO_L13N_T2_MRCC_9 (io), AA20 IO_L6N_T0_VREF_9 (io), AB19 IO_L14P_T2_SRCC_9 (io), AB20 IO_L14N_T2_SRCC_9 (io), AC18 IO_L11P_T1_SRCC_9 (io), AC19 IO_L11N_T1_SRCC_9 (io), AD18 IO_L12P_T1_MRCC_9 (io), AD19 IO_L12N_T1_MRCC_9 (io), AD20 IO_L19P_T3_9 (io), AE20 IO_L19N_T3_VREF_9 (io), Y20 IO_L6P_T0_9 (io)
part B pins: AA13 IO_0_10 (io), AA14 IO_L20N_T3_10 (io), AA15 IO_L20P_T3_10 (io), AA17 IO_25_10 (io), AB12 IO_L21P_T3_DQS_10 (io), AB14 IO_L22N_T3_10 (io), AB15 IO_L22P_T3_10 (io), AB16 IO_L24N_T3_10 (io), AB17 IO_L24P_T3_10 (io), AC12 IO_L21N_T3_DQS_10 (io), AC13 IO_L19N_T3_VREF_10 (io), AC14 IO_L19P_T3_10 (io), AC16 IO_L23N_T3_10 (io), AC17 IO_L23P_T3_10 (io), AD13 IO_L9N_T1_DQS_10 (io), AD14 IO_L9P_T1_DQS_10 (io), AD15 IO_L18N_T2_10 (io), AD16 IO_L18P_T2_10 (io), AE12 IO_L7P_T1_10 (io), AE13 IO_L11P_T1_SRCC_10 (io), AE15 IO_L16N_T2_10 (io), AE16 IO_L16P_T2_10 (io), AE17 IO_L17N_T2_10 (io), AE18 IO_L17P_T2_10 (io), AF12 IO_L7N_T1_10 (io), AF13 IO_L11N_T1_SRCC_10 (io), AF14 IO_L12P_T1_MRCC_10 (io), AF15 IO_L14P_T2_SRCC_10 (io), AF17 IO_L15N_T2_DQS_10 (io), AF18 IO_L15P_T2_DQS_10 (io), AG12 IO_L10P_T1_10 (io), AG14 IO_L12N_T1_MRCC_10 (io), AG15 IO_L14N_T2_SRCC_10 (io), AG16 IO_L13N_T2_MRCC_10 (io), AG17 IO_L13P_T2_MRCC_10 (io), AH12 IO_L10N_T1_10 (io), AH13 IO_L8N_T1_10 (io), AH14 IO_L8P_T1_10 (io), AH16 IO_L6N_T0_VREF_10 (io), AH17 IO_L6P_T0_10 (io), AH18 IO_L2P_T0_10 (io), AJ13 IO_L3N_T0_DQS_10 (io), AJ14 IO_L3P_T0_DQS_10 (io), AJ15 IO_L5P_T0_10 (io), AJ16 IO_L4P_T0_10 (io), AJ18 IO_L2N_T0_10 (io), AK12 IO_L1N_T0_10 (io), AK13 IO_L1P_T0_10 (io), AK15 IO_L5N_T0_10 (io), AK16 IO_L4N_T0_10 (io)
part C pins: AA22 IO_L23P_T3_11 (io), AA23 IO_L23N_T3_11 (io), AA24 IO_L22P_T3_11 (io), AB21 IO_L19P_T3_11 (io), AB22 IO_L19N_T3_VREF_11 (io), AB24 IO_L22N_T3_11 (io), AC21 IO_25_11 (io), AC22 IO_L24P_T3_11 (io), AC23 IO_L24N_T3_11 (io), AC24 IO_L7P_T1_11 (io), AD21 IO_L10P_T1_11 (io), AD23 IO_L11P_T1_SRCC_11 (io), AD24 IO_L7N_T1_11 (io), AE21 IO_L10N_T1_11 (io), AE22 IO_L12P_T1_MRCC_11 (io), AE23 IO_L11N_T1_SRCC_11 (io), AF19 IO_L18P_T2_11 (io), AF20 IO_L14P_T2_SRCC_11 (io), AF22 IO_L12N_T1_MRCC_11 (io), AF23 IO_L9P_T1_DQS_11 (io), AF24 IO_L9N_T1_DQS_11 (io), AG19 IO_L18N_T2_11 (io), AG20 IO_L14N_T2_SRCC_11 (io), AG21 IO_L13P_T2_MRCC_11 (io), AG22 IO_L6P_T0_11 (io), AG24 IO_L8P_T1_11 (io), AG25 IO_L8N_T1_11 (io), AH19 IO_L17P_T2_11 (io), AH21 IO_L13N_T2_MRCC_11 (io), AH22 IO_L6N_T0_VREF_11 (io), AH23 IO_L5P_T0_11 (io), AH24 IO_L5N_T0_11 (io), AJ19 IO_L17N_T2_11 (io), AJ20 IO_L15P_T2_DQS_11 (io), AJ21 IO_L3P_T0_DQS_11 (io), AJ23 IO_L4P_T0_11 (io), AJ24 IO_L4N_T0_11 (io), AJ25 IO_L1P_T0_11 (io), AK17 IO_L16P_T2_11 (io), AK18 IO_L16N_T2_11 (io), AK20 IO_L15N_T2_DQS_11 (io), AK21 IO_L3N_T0_DQS_11 (io), AK22 IO_L2P_T0_11 (io), AK23 IO_L2N_T0_11 (io), AK25 IO_L1N_T0_11 (io), W21 IO_L20P_T3_11 (io), W23 IO_0_11 (io), Y21 IO_L20N_T3_11 (io), Y22 IO_L21P_T3_DQS_11 (io), Y23 IO_L21N_T3_DQS_11 (io)
part D pins: AA25 IO_25_12 (io), AA27 IO_L5P_T0_12 (io), AA28 IO_L5N_T0_12 (io), AA29 IO_L4N_T0_12 (io), AA30 IO_L1N_T0_12 (io), AB25 IO_L6P_T0_12 (io), AB26 IO_L6N_T0_VREF_12 (io), AB27 IO_L11P_T1_SRCC_12 (io), AB29 IO_L2P_T0_12 (io), AB30 IO_L2N_T0_12 (io), AC26 IO_L7P_T1_12 (io), AC27 IO_L11N_T1_SRCC_12 (io), AC28 IO_L12P_T1_MRCC_12 (io), AC29 IO_L9P_T1_DQS_12 (io), AD25 IO_L10P_T1_12 (io), AD26 IO_L7N_T1_12 (io), AD28 IO_L12N_T1_MRCC_12 (io), AD29 IO_L9N_T1_DQS_12 (io), AD30 IO_L8P_T1_12 (io), AE25 IO_L18P_T2_12 (io), AE26 IO_L10N_T1_12 (io), AE27 IO_L14P_T2_SRCC_12 (io), AE28 IO_L13P_T2_MRCC_12 (io), AE30 IO_L8N_T1_12 (io), AF25 IO_L18N_T2_12 (io), AF27 IO_L14N_T2_SRCC_12 (io), AF28 IO_L13N_T2_MRCC_12 (io), AF29 IO_L15P_T2_DQS_12 (io), AF30 IO_L16P_T2_12 (io), AG26 IO_L17P_T2_12 (io), AG27 IO_L17N_T2_12 (io), AG29 IO_L15N_T2_DQS_12 (io), AG30 IO_L16N_T2_12 (io), AH26 IO_L23P_T3_12 (io), AH27 IO_L23N_T3_12 (io), AH28 IO_L19P_T3_12 (io), AH29 IO_L19N_T3_VREF_12 (io), AJ26 IO_L24P_T3_12 (io), AJ28 IO_L21P_T3_DQS_12 (io), AJ29 IO_L21N_T3_DQS_12 (io), AJ30 IO_L20P_T3_12 (io), AK26 IO_L24N_T3_12 (io), AK27 IO_L22P_T3_12 (io), AK28 IO_L22N_T3_12 (io), AK30 IO_L20N_T3_12 (io), Y25 IO_0_12 (io), Y26 IO_L3P_T0_DQS_12 (io), Y27 IO_L3N_T0_DQS_12 (io), Y28 IO_L4P_T0_12 (io), Y30 IO_L1P_T0_12 (io)
part E pins: N26 IO_L15P_T2_DQS_13 (io), N27 IO_L15N_T2_DQS_13 (io), N28 IO_L3P_T0_DQS_13 (io), N29 IO_L4P_T0_13 (io), P21 IO_L19P_T3_13 (io), P23 IO_L18P_T2_13 (io), P24 IO_L18N_T2_13 (io), P25 IO_L16P_T2_13 (io), P26 IO_L16N_T2_13 (io), P28 IO_L3N_T0_DQS_13 (io), P29 IO_L4N_T0_13 (io), P30 IO_L1P_T0_13 (io), R21 IO_L19N_T3_VREF_13 (io), R22 IO_L21P_T3_DQS_13 (io), R23 IO_L21N_T3_DQS_13 (io), R25 IO_L13P_T2_MRCC_13 (io), R26 IO_L13N_T2_MRCC_13 (io), R27 IO_L14P_T2_SRCC_13 (io), R28 IO_L6P_T0_13 (io), R30 IO_L1N_T0_13 (io), T22 IO_L20P_T3_13 (io), T23 IO_L20N_T3_13 (io), T24 IO_L17P_T2_13 (io), T25 IO_L17N_T2_13 (io), T27 IO_L14N_T2_SRCC_13 (io), T28 IO_L6N_T0_VREF_13 (io), T29 IO_L5P_T0_13 (io), T30 IO_L2P_T0_13 (io), U21 IO_0_13 (io), U22 IO_L22P_T3_13 (io), U24 IO_L23P_T3_13 (io), U25 IO_L11P_T1_SRCC_13 (io), U26 IO_L12P_T1_MRCC_13 (io), U27 IO_L12N_T1_MRCC_13 (io), U29 IO_L5N_T0_13 (io), U30 IO_L2N_T0_13 (io), V21 IO_25_13 (io), V22 IO_L22N_T3_13 (io), V23 IO_L24P_T3_13 (io), V24 IO_L23N_T3_13 (io), V26 IO_L11N_T1_SRCC_13 (io), V27 IO_L9P_T1_DQS_13 (io), V28 IO_L7P_T1_13 (io), V29 IO_L7N_T1_13 (io), W24 IO_L24N_T3_13 (io), W25 IO_L10P_T1_13 (io), W26 IO_L10N_T1_13 (io), W28 IO_L9N_T1_DQS_13 (io), W29 IO_L8P_T1_13 (io), W30 IO_L8N_T1_13 (io)
part F pins: A2 IO_L24N_T3_33 (io), A3 IO_L24P_T3_33 (io), A4 IO_L21N_T3_DQS_33 (io), A5 IO_L21P_T3_DQS_33 (io), B1 IO_L23N_T3_33 (io), B2 IO_L23P_T3_33 (io), B4 IO_L20N_T3_33 (io), B5 IO_L20P_T3_33 (io), C1 IO_L22N_T3_33 (io), C2 IO_L22P_T3_33 (io), C3 IO_L19N_T3_VREF_33 (io), C4 IO_L19P_T3_33 (io), D1 IO_L18N_T2_33 (io), D3 IO_L16N_T2_33 (io), D4 IO_L16P_T2_33 (io), D5 IO_L15N_T2_DQS_33 (io), E1 IO_L18P_T2_33 (io), E2 IO_L17N_T2_33 (io), E3 IO_L17P_T2_33 (io), E5 IO_L13N_T2_MRCC_33 (io), E6 IO_L15P_T2_DQS_33 (io), F2 IO_L7N_T1_33 (io), F3 IO_L14N_T2_SRCC_33 (io), F4 IO_L14P_T2_SRCC_33 (io), F5 IO_L13P_T2_MRCC_33 (io), G1 IO_L10N_T1_33 (io), G2 IO_L7P_T1_33 (io), G4 IO_L12N_T1_MRCC_33 (io), G5 IO_L12P_T1_MRCC_33 (io), G6 IO_L8N_T1_33 (io), H1 IO_L9N_T1_DQS_33 (io), H2 IO_L10P_T1_33 (io), H3 IO_L11N_T1_SRCC_33 (io), H4 IO_L11P_T1_SRCC_33 (io), H6 IO_L8P_T1_33 (io), J1 IO_L9P_T1_DQS_33 (io), J3 IO_L1N_T0_33 (io), J4 IO_L1P_T0_33 (io), J5 IO_L5N_T0_33 (io), J6 IO_L6N_T0_VREF_33 (io), K1 IO_L2N_T0_33 (io), K2 IO_L3N_T0_DQS_33 (io), K3 IO_L3P_T0_DQS_33 (io), K5 IO_L5P_T0_33 (io), K6 IO_L6P_T0_33 (io), L1 IO_L2P_T0_33 (io), L2 IO_L4N_T0_33 (io), L3 IO_L4P_T0_33 (io), L4 IO_25_VRP_33 (io), L5 IO_0_VRN_33 (io)
part G pins: A7 IO_L3N_T0_DQS_34 (io), A8 IO_L3P_T0_DQS_PUDC_B_34 (io), A9 IO_L2N_T0_34 (io), A10 IO_L1N_T0_34 (io), B6 IO_L5N_T0_34 (io), B7 IO_L4N_T0_34 (io), B9 IO_L2P_T0_34 (io), B10 IO_L1P_T0_34 (io), C6 IO_L5P_T0_34 (io), C7 IO_L4P_T0_34 (io), C8 IO_L6N_T0_VREF_34 (io), C9 IO_L6P_T0_34 (io), D6 IO_L17N_T2_34 (io), D8 IO_L12N_T1_MRCC_34 (io), D9 IO_L12P_T1_MRCC_34 (io), D10 IO_L10N_T1_34 (io), D11 IO_L8N_T1_34 (io), E7 IO_L17P_T2_34 (io), E8 IO_L14N_T2_SRCC_34 (io), E10 IO_L10P_T1_34 (io), E11 IO_L8P_T1_34 (io), F7 IO_L16N_T2_34 (io), F8 IO_L16P_T2_34 (io), F9 IO_L14P_T2_SRCC_34 (io), F10 IO_L11N_T1_SRCC_34 (io), G7 IO_L18N_T2_34 (io), G9 IO_L13N_T2_MRCC_34 (io), G10 IO_L11P_T1_SRCC_34 (io), G11 IO_L9N_T1_DQS_34 (io), H7 IO_L18P_T2_34 (io), H8 IO_L15N_T2_DQS_34 (io), H9 IO_L13P_T2_MRCC_34 (io), H11 IO_L7N_T1_34 (io), H12 IO_L9P_T1_DQS_34 (io), J8 IO_L15P_T2_DQS_34 (io), J9 IO_L20N_T3_34 (io), J10 IO_L20P_T3_34 (io), J11 IO_L7P_T1_34 (io), K7 IO_L19N_T3_VREF_34 (io), K8 IO_L21N_T3_DQS_34 (io), K10 IO_L22N_T3_34 (io), K11 IO_L22P_T3_34 (io), K12 IO_L24N_T3_34 (io), L7 IO_L19P_T3_34 (io), L8 IO_L21P_T3_DQS_34 (io), L9 IO_L23N_T3_34 (io), L10 IO_L23P_T3_34 (io), L12 IO_L24P_T3_34 (io), M10 IO_25_VRP_34 (io), M12 IO_0_VRN_34 (io)
part H pins: A12 IO_L24N_T3_AD15N_35 (io), A13 IO_L24P_T3_AD15P_35 (io), A14 IO_L23N_T3_35 (io), A15 IO_L21N_T3_DQS_AD14N_35 (io), A17 IO_L18N_T2_AD13N_35 (io), B11 IO_L22N_T3_AD7N_35 (io), B12 IO_L20N_T3_AD6N_35 (io), B14 IO_L23P_T3_35 (io), B15 IO_L21P_T3_DQS_AD14P_35 (io), B16 IO_L17N_T2_AD5N_35 (io), B17 IO_L18P_T2_AD13P_35 (io), C11 IO_L22P_T3_AD7P_35 (io), C12 IO_L20P_T3_AD6P_35 (io), C13 IO_L19N_T3_VREF_35 (io), C14 IO_L19P_T3_35 (io), C16 IO_L16N_T2_35 (io), C17 IO_L17P_T2_AD5P_35 (io), D13 IO_L11N_T1_SRCC_35 (io), D14 IO_L14N_T2_AD4N_SRCC_35 (io), D15 IO_L14P_T2_AD4P_SRCC_35 (io), D16 IO_L16P_T2_35 (io), E12 IO_L10N_T1_AD11N_35 (io), E13 IO_L11P_T1_SRCC_35 (io), E15 IO_L13N_T2_MRCC_35 (io), E16 IO_L13P_T2_MRCC_35 (io), E17 IO_L15N_T2_DQS_AD12N_35 (io), F12 IO_L9N_T1_DQS_AD3N_35 (io), F13 IO_L10P_T1_AD11P_35 (io), F14 IO_L12N_T1_MRCC_35 (io), F15 IO_L12P_T1_MRCC_35 (io), F17 IO_L15P_T2_DQS_AD12P_35 (io), G12 IO_L9P_T1_DQS_AD3P_35 (io), G14 IO_L8N_T1_AD10N_35 (io), G15 IO_L8P_T1_AD10P_35 (io), G16 IO_L7N_T1_AD2N_35 (io), G17 IO_L7P_T1_AD2P_35 (io), H13 IO_L2N_T0_AD8N_35 (io), H14 IO_L4N_T0_35 (io), H16 IO_L6N_T0_VREF_35 (io), J13 IO_L2P_T0_AD8P_35 (io), J14 IO_L4P_T0_35 (io), J15 IO_L5N_T0_AD9N_35 (io), J16 IO_L6P_T0_35 (io), K13 IO_L3N_T0_DQS_AD1N_35 (io), K15 IO_L5P_T0_AD9P_35 (io), K16 IO_0_VRN_35 (io), L13 IO_L3P_T0_DQS_AD1P_35 (io), L14 IO_L1N_T0_AD0N_35 (io), L15 IO_L1P_T0_AD0P_35 (io), M16 IO_25_VRP_35 (io)
part I pins: AA9 DONE_0 (io), P10 TDI_0 (in), R14 VREFN_0 (in), R15 VP_0 (in), T14 VN_0 (in), T15 VREFP_0 (in), U14 DXN_0 (in), U15 DXP_0 (in), V9 CFGBVS_0 (in), V10 TMS_0 (in), W9 INIT_B_0 (io), Y9 PROGRAM_B_0 (in), Y10 TDO_0 (out), Y12 TCK_0 (in)
part J pins: A18 PS_MIO47_501 (io), A19 PS_MIO50_501 (io), A20 PS_MIO38_501 (io), A22 PS_CLK_500 (in), A23 PS_MIO11_500 (io), A24 PS_MIO9_500 (io), B19 PS_SRST_B_501 (in), B20 PS_MIO40_501 (io), B21 PS_MIO37_501 (io), B22 PS_MIO14_500 (io), B24 PS_MIO7_500 (io), C18 PS_MIO53_501 (io), C19 PS_MIO48_501 (io), C21 PS_MIO8_500 (io), C22 PS_MIO15_500 (io), C23 PS_MIO3_500 (io), C24 PS_MIO5_500 (io), D18 PS_MIO49_501 (io), D19 PS_MIO52_501 (io), D20 PS_MIO42_501 (io), D21 PS_POR_B_500 (in), D23 PS_MIO1_500 (io), D24 PS_MIO6_500 (io), E18 PS_MIO43_501 (io), E20 PS_MIO44_501 (io), E21 PS_MIO12_500 (io), E22 PS_MIO10_500 (io), E23 PS_MIO4_500 (io), F18 PS_MIO39_501 (io), F19 PS_MIO51_501 (io), F20 PS_MIO46_501 (io), F22 PS_MIO13_500 (io), F23 PS_MIO2_500 (io), F24 PS_MIO0_500 (io), G19 PS_MIO25_501 (io), G20 PS_MIO27_501 (io), G21 PS_MIO35_501 (io), G22 PS_MIO33_501 (io), H17 PS_MIO36_501 (io), H18 PS_MIO45_501 (io), H19 PS_MIO_VREF_501 (in), H21 PS_MIO31_501 (io), H22 PS_MIO29_501 (io), J18 PS_MIO41_501 (io), J19 PS_MIO21_501 (io), J20 PS_MIO19_501 (io), J21 PS_MIO23_501 (io), K17 PS_MIO32_501 (io), K18 PS_MIO34_501 (io), K20 PS_MIO18_501 (io), K21 PS_MIO17_501 (io), L17 PS_MIO28_501 (io), L18 PS_MIO30_501 (io), L19 PS_MIO16_501 (io), L20 PS_MIO22_501 (io), M17 PS_MIO26_501 (io), M19 PS_MIO24_501 (io), M20 PS_MIO20_501 (io)
part K pins: A25 PS_DDR_DQ0_502 (io), A27 PS_DDR_DQ9_502 (io), A28 PS_DDR_DQ11_502 (io), A29 PS_DDR_DQ8_502 (io), A30 PS_DDR_DQ10_502 (io), B25 PS_DDR_DQ4_502 (io), B26 PS_DDR_DQS_N0_502 (io), B27 PS_DDR_DQ2_502 (io), B29 PS_DDR_DQS_N1_502 (io), B30 PS_DDR_DM1_502 (out), C26 PS_DDR_DQS_P0_502 (io), C27 PS_DDR_DM0_502 (out), C28 PS_DDR_DQ12_502 (io), C29 PS_DDR_DQS_P1_502 (io), D25 PS_DDR_DQ3_502 (io), D26 PS_DDR_DQ6_502 (io), D28 PS_DDR_DQ14_502 (io), D29 PS_DDR_DQ15_502 (io), D30 PS_DDR_DQ13_502 (io), E25 PS_DDR_DQ1_502 (io), E26 PS_DDR_DQ5_502 (io), E27 PS_DDR_DQ7_502 (io), E28 PS_DDR_DQ19_502 (io), E30 PS_DDR_DQ20_502 (io), F25 PS_DDR_DRST_B_502 (out), F27 PS_DDR_A8_502 (out), F28 PS_DDR_DQ21_502 (io), F29 PS_DDR_DQS_N2_502 (io), F30 PS_DDR_DQ23_502 (io), G24 PS_DDR_A5_502 (out), G25 PS_DDR_A3_502 (out), G26 PS_DDR_A10_502 (out), G27 PS_DDR_DQ17_502 (io), G29 PS_DDR_DQS_P2_502 (io), G30 PS_DDR_DQ22_502 (io), H23 PS_DDR_A13_502 (out), H24 PS_DDR_A11_502 (out), H26 PS_DDR_A6_502 (out), H27 PS_DDR_DQ16_502 (io), H28 PS_DDR_DQ18_502 (io), H29 PS_DDR_DM2_502 (out), J23 PS_DDR_A9_502 (out), J24 PS_DDR_A14_502 (out), J25 PS_DDR_CKN_502 (out), J26 PS_DDR_A4_502 (out), J28 PS_DDR_DQ27_502 (io), J29 PS_DDR_DQ24_502 (io), J30 PS_DDR_DQ26_502 (io), K22 PS_DDR_A7_502 (out), K23 PS_DDR_A12_502 (out), K25 PS_DDR_CKP_502 (out), K26 PS_DDR_A1_502 (out), K27 PS_DDR_DQ25_502 (io), K28 PS_DDR_DM3_502 (out), K30 PS_DDR_DQ28_502 (io), L22 PS_DDR_VREF0_502 (in), L23 PS_DDR_ODT_502 (out), L24 PS_DDR_VREF1_502 (in), L25 PS_DDR_A0_502 (out), L27 PS_DDR_A2_502 (out), L28 PS_DDR_DQS_P3_502 (io), L29 PS_DDR_DQS_N3_502 (io), L30 PS_DDR_DQ30_502 (io), M21 PS_DDR_VRP_502 (out), M22 PS_DDR_CKE_502 (out), M24 PS_DDR_CAS_B_502 (out), M25 PS_DDR_BA2_502 (out), M26 PS_DDR_BA1_502 (out), M27 PS_DDR_BA0_502 (out), M29 PS_DDR_DQ29_502 (io), M30 PS_DDR_DQ31_502 (io), N21 PS_DDR_VRN_502 (out), N22 PS_DDR_CS_B_502 (out), N23 PS_DDR_WE_B_502 (out), N24 PS_DDR_RAS_B_502 (out)
part L pins: AA3 MGTXRXN3_111 (in), AA4 MGTXRXP3_111 (in), AA7 MGTREFCLK0N_110 (in), AA8 MGTREFCLK0P_110 (in), AB1 MGTXTXN0_111 (out), AB2 MGTXTXP0_111 (out), AB5 MGTXRXN1_111 (in), AB6 MGTXRXP1_111 (in), AB9 MGTRREF_112 (in), AB10 MGTAVTTRCAL_112, AC3 MGTXRXN0_111 (in), AC4 MGTXRXP0_111 (in), AC7 MGTREFCLK1N_110 (in), AC8 MGTREFCLK1P_110 (in), AD1 MGTXTXN3_110 (out), AD2 MGTXTXP3_110 (out), AD5 MGTXRXN3_110 (in), AD6 MGTXRXP3_110 (in), AD9 MGTREFCLK0N_109 (in), AD10 MGTREFCLK0P_109 (in), AE3 MGTXTXN2_110 (out), AE4 MGTXTXP2_110 (out), AE7 MGTXRXN3_109 (in), AE8 MGTXRXP3_109 (in), AF1 MGTXTXN1_110 (out), AF2 MGTXTXP1_110 (out), AF5 MGTXRXN2_110 (in), AF6 MGTXRXP2_110 (in), AF9 MGTREFCLK1N_109 (in), AF10 MGTREFCLK1P_109 (in), AG3 MGTXRXN1_110 (in), AG4 MGTXRXP1_110 (in), AG7 MGTXRXN2_109 (in), AG8 MGTXRXP2_109 (in), AH1 MGTXTXN0_110 (out), AH2 MGTXTXP0_110 (out), AH5 MGTXRXN0_110 (in), AH6 MGTXRXP0_110 (in), AH9 MGTXRXN0_109 (in), AH10 MGTXRXP0_109 (in), AJ3 MGTXTXN2_109 (out), AJ4 MGTXTXP2_109 (out), AJ7 MGTXRXN1_109 (in), AJ8 MGTXRXP1_109 (in), AK1 MGTXTXN3_109 (out), AK2 MGTXTXP3_109 (out), AK5 MGTXTXN1_109 (out), AK6 MGTXTXP1_109 (out), AK9 MGTXTXN0_109 (out), AK10 MGTXTXP0_109 (out), N3 MGTXTXN3_112 (out), N4 MGTXTXP3_112 (out), N7 MGTREFCLK0N_112 (in), N8 MGTREFCLK0P_112 (in), P1 MGTXTXN2_112 (out), P2 MGTXTXP2_112 (out), P5 MGTXRXN3_112 (in), P6 MGTXRXP3_112 (in), R3 MGTXTXN1_112 (out), R4 MGTXTXP1_112 (out), R7 MGTREFCLK1N_112 (in), R8 MGTREFCLK1P_112 (in), T1 MGTXTXN0_112 (out), T2 MGTXTXP0_112 (out), T5 MGTXRXN2_112 (in), T6 MGTXRXP2_112 (in), U3 MGTXRXN1_112 (in), U4 MGTXRXP1_112 (in), U7 MGTREFCLK0N_111 (in), U8 MGTREFCLK0P_111 (in), V1 MGTXTXN3_111 (out), V2 MGTXTXP3_111 (out), V5 MGTXRXN0_112 (in), V6 MGTXRXP0_112 (in), W3 MGTXTXN2_111 (out), W4 MGTXTXP2_111 (out), W7 MGTREFCLK1N_111 (in), W8 MGTREFCLK1P_111 (in), Y1 MGTXTXN1_111 (out), Y2 MGTXTXP1_111 (out), Y5 MGTXRXN2_111 (in), Y6 MGTXRXP2_111 (in)
part M pins: AA2 MGTAVTT (power), AA6 MGTAVCC (power), AB4 MGTAVTT (power), AB8 MGTAVCC (power), AC2 MGTAVTT (power), AC6 MGTAVCC (power), AC10 MGTAVCC (power), AD4 MGTAVTT (power), AD8 MGTAVCC (power), AE2 MGTAVTT (power), AE6 MGTAVCC (power), AE10 MGTAVCC (power), AF4 MGTAVTT (power), AF8 MGTAVCC (power), AG2 MGTAVTT (power), AG6 MGTAVTT (power), AG10 MGTAVCC (power), AH4 MGTAVTT (power), AH8 MGTAVCC (power), AJ2 MGTAVTT (power), AJ6 MGTAVTT (power), AJ10 MGTAVCC (power), AK4 MGTAVTT (power), AK8 MGTAVTT (power), N2 MGTAVTT (power), N6 MGTAVCC (power), P4 MGTAVTT (power), P8 MGTAVCC (power), R2 MGTAVTT (power), R6 MGTAVCC (power), T4 MGTAVTT (power), T7 MGTVCCAUX (power), U2 MGTAVTT (power), U6 MGTAVCC (power), V4 MGTAVTT (power), V7 MGTVCCAUX (power), W2 MGTAVTT (power), W6 MGTAVCC (power), Y4 MGTAVTT (power), Y8 MGTAVCC (power)
part N pins: A6 VCCO_34 (power), A16 VCCO_35 (power), AA16 VCCO_10 (power), AA26 VCCO_12 (power), AB13 VCCO_10 (power), AB23 VCCO_11 (power), AC20 VCCO_9 (power), AC30 VCCO_12 (power), AD17 VCCO_10 (power), AD27 VCCO_12 (power), AE14 VCCO_10 (power), AE24 VCCO_11 (power), AF21 VCCO_11 (power), AG18 VCCO_10 (power), AG28 VCCO_12 (power), AH15 VCCO_10 (power), AH25 VCCO_11 (power), AJ12 VCCO_10 (power), AJ22 VCCO_11 (power), AK19 VCCO_11 (power), AK29 VCCO_12 (power), B3 VCCO_33 (power), B13 VCCO_35 (power), C10 VCCO_34 (power), D7 VCCO_34 (power), D17 VCCO_35 (power), E4 VCCO_33 (power), E14 VCCO_35 (power), F1 VCCO_33 (power), F11 VCCO_34 (power), G8 VCCO_34 (power), H5 VCCO_33 (power), H15 VCCO_35 (power), J2 VCCO_33 (power), J12 VCCO_34 (power), K9 VCCO_34 (power), L6 VCCO_33 (power), L16 VCCO_35 (power), N30 VCCO_13 (power), P27 VCCO_13 (power), R9 RSVDVCC3 (power), R24 VCCO_13 (power), T9 RSVDVCC2 (power), T21 VCCO_13 (power), U9 RSVDVCC1 (power), U28 VCCO_13 (power), V25 VCCO_13 (power), W22 VCCO_11 (power), Y13 VCCO_0 (power), Y15 VCCO_0 (power), Y19 VCCO_9 (power), Y29 VCCO_12 (power)
part O pins: A26 VCCO_DDR_502 (power), B23 VCCO_MIO0_500 (power), C20 VCCO_MIO1_501 (power), C30 VCCO_DDR_502 (power), D27 VCCO_DDR_502 (power), E24 VCCO_MIO0_500 (power), F21 VCCO_MIO0_500 (power), G18 VCCO_MIO1_501 (power), G28 VCCO_DDR_502 (power), H25 VCCO_DDR_502 (power), J22 VCCO_MIO1_501 (power), K19 VCCO_MIO1_501 (power), K29 VCCO_DDR_502 (power), L26 VCCO_DDR_502 (power), M11 VCCAUX (power), M13 VCCINT (power), M15 VCCINT (power), M23 VCCO_DDR_502 (power), N10 VCCAUX (power), N12 VCCINT (power), N14 VCCINT (power), N16 VCCPINT (power), N18 VCCPLL (power), N20 VCCPAUX (power), P9 VCCBATT_0 (power), P11 VCCAUX_IO_G0 (power), P13 VCCINT (power), P15 VCCADC_0 (power), P17 VCCPINT (power), P19 VCCPAUX (power), R10 VCCAUX (power), R12 VCCINT (power), R16 VCCINT (power), R18 VCCPINT (power), R20 VCCPAUX (power), T11 VCCAUX_IO_G0 (power), T13 VCCINT (power), T17 VCCPINT (power), T19 VCCPINT (power), U10 VCCAUX (power), U12 VCCINT (power), U16 VCCINT (power), U18 VCCPINT (power), U20 VCCPAUX (power), V11 VCCAUX_IO_G0 (power), V13 VCCINT (power), V15 VCCINT (power), V17 VCCBRAM (power), V19 VCCBRAM (power), W10 VCCAUX (power), W12 VCCINT (power), W14 VCCINT (power), W16 VCCINT (power), W18 VCCBRAM (power), W20 VCCBRAM (power), Y11 VCCAUX (power), Y17 VCCINT (power)
part P pins: A1 GND (power), A11 GND (power), A21 GND (power), AA1 GND (power), AA5 GND (power), AA10 GND (power), AA11 GND (power), AA12 RSVDGND (power), AA21 GND (power), AB3 GND (power), AB7 GND (power), AB11 GND (power), AB18 GND (power), AB28 GND (power), AC1 GND (power), AC5 GND (power), AC9 GND (power), AC11 GND (power), AC15 GND (power), AC25 GND (power), AD3 GND (power), AD7 GND (power), AD11 GND (power), AD12 GND (power), AD22 GND (power), AE1 GND (power), AE5 GND (power), AE9 GND (power), AE11 GND (power), AE19 GND (power), AE29 GND (power), AF3 GND (power), AF7 GND (power), AF11 GND (power), AF16 GND (power), AF26 GND (power), AG1 GND (power), AG5 GND (power), AG9 GND (power), AG11 GND (power), AG13 GND (power), AG23 GND (power), AH3 GND (power), AH7 GND (power), AH11 GND (power), AH20 GND (power), AH30 GND (power), AJ1 GND (power), AJ5 GND (power), AJ9 GND (power), AJ11 GND (power), AJ17 GND (power), AJ27 GND (power), AK3 GND (power), AK7 GND (power), AK11 GND (power), AK14 GND (power), AK24 GND (power), B8 GND (power), B18 GND (power), B28 GND (power), C5 GND (power), C15 GND (power), C25 GND (power), D2 GND (power), D12 GND (power), D22 GND (power), E9 GND (power), E19 GND (power), E29 GND (power), F6 GND (power), F16 GND (power), F26 GND (power), G3 GND (power), G13 GND (power), G23 GND (power), H10 GND (power), H20 GND (power), H30 GND (power), J7 GND (power), J17 GND (power), J27 GND (power), K4 GND (power), K14 GND (power), K24 GND (power), L11 GND (power), L21 GND (power), M1 GND (power), M2 GND (power), M3 GND (power), M4 GND (power), M5 GND (power), M6 GND (power), M7 GND (power), M8 GND (power), M9 GND (power), M14 GND (power), M18 GND (power), M28 GND (power), N1 GND (power), N5 GND (power), N9 GND (power), N11 GND (power), N13 GND (power), N15 GND (power), N17 GND (power), N19 GND (power), N25 GND (power), P3 GND (power), P7 GND (power), P12 GND (power), P14 GNDADC_0 (power), P16 GND (power), P18 GND (power), P20 GND (power), P22 GND (power), R1 GND (power), R5 GND (power), R11 GND (power), R13 GND (power), R17 GND (power), R19 GND (power), R29 GND (power), T3 GND (power), T8 GND (power), T10 GND (power), T12 GND (power), T16 GND (power), T18 GND (power), T20 GND (power), T26 GND (power), U1 GND (power), U5 GND (power), U11 GND (power), U13 GND (power), U17 GND (power), U19 GND (power), U23 GND (power), V3 GND (power), V8 GND (power), V12 GND (power), V14 GND (power), V16 GND (power), V18 GND (power), V20 GND (power), V30 GND (power), W1 GND (power), W5 GND (power), W11 GND (power), W13 GND (power), W15 GND (power), W17 GND (power), W19 GND (power), W27 GND (power), Y3 GND (power), Y7 GND (power), Y14 GND (power), Y16 GND (power), Y18 GND (power), Y24 GND (power)
part A text: BANK 9
part B text: BANK 10
part C text: BANK 11
part D text: BANK 12
part E text: BANK 13
part F text: BANK 33
part G text: BANK 34
part H text: BANK 35

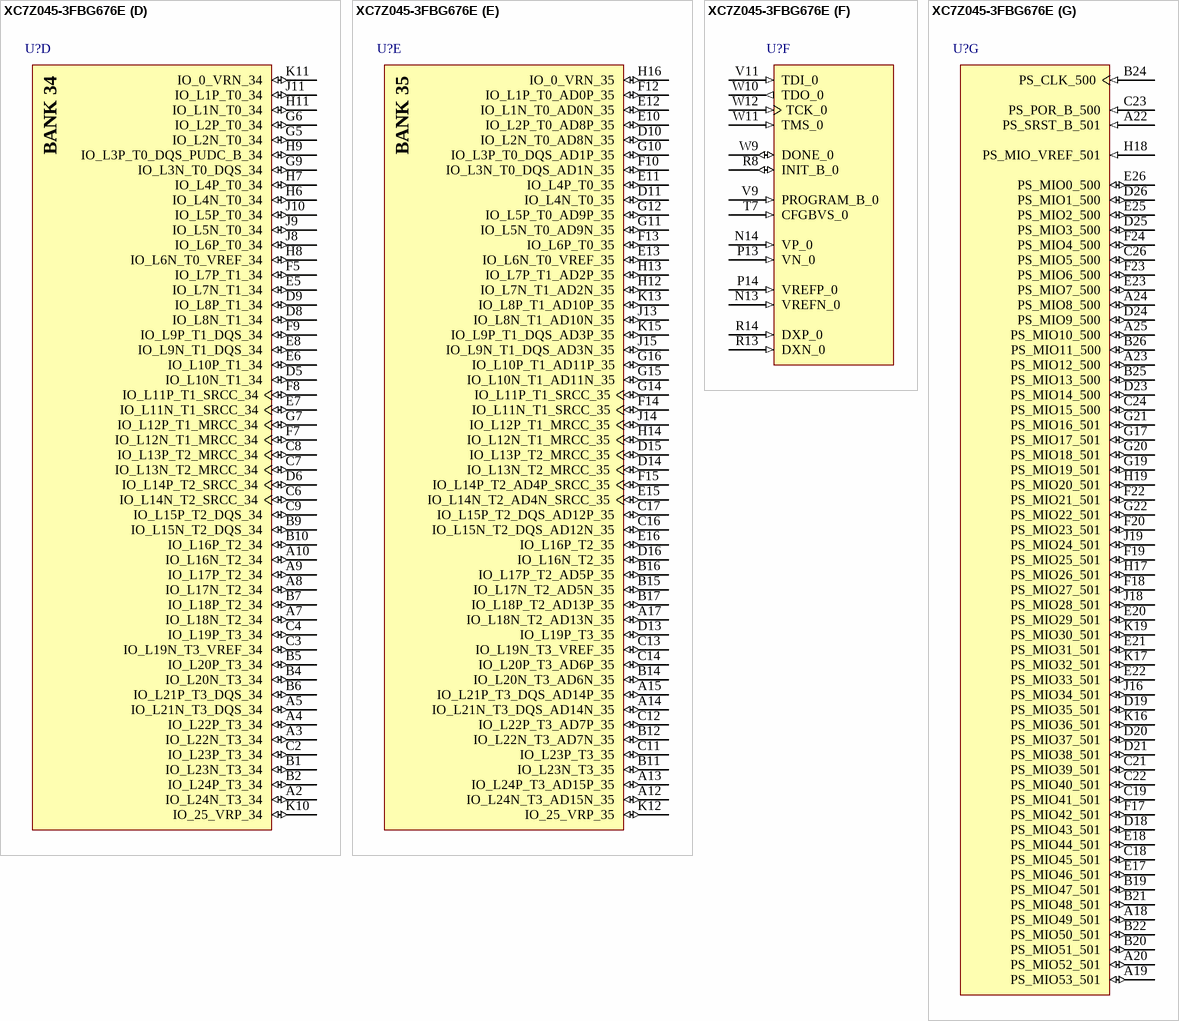
[diagram p88: symbol XC7Z045-3FBG676E]

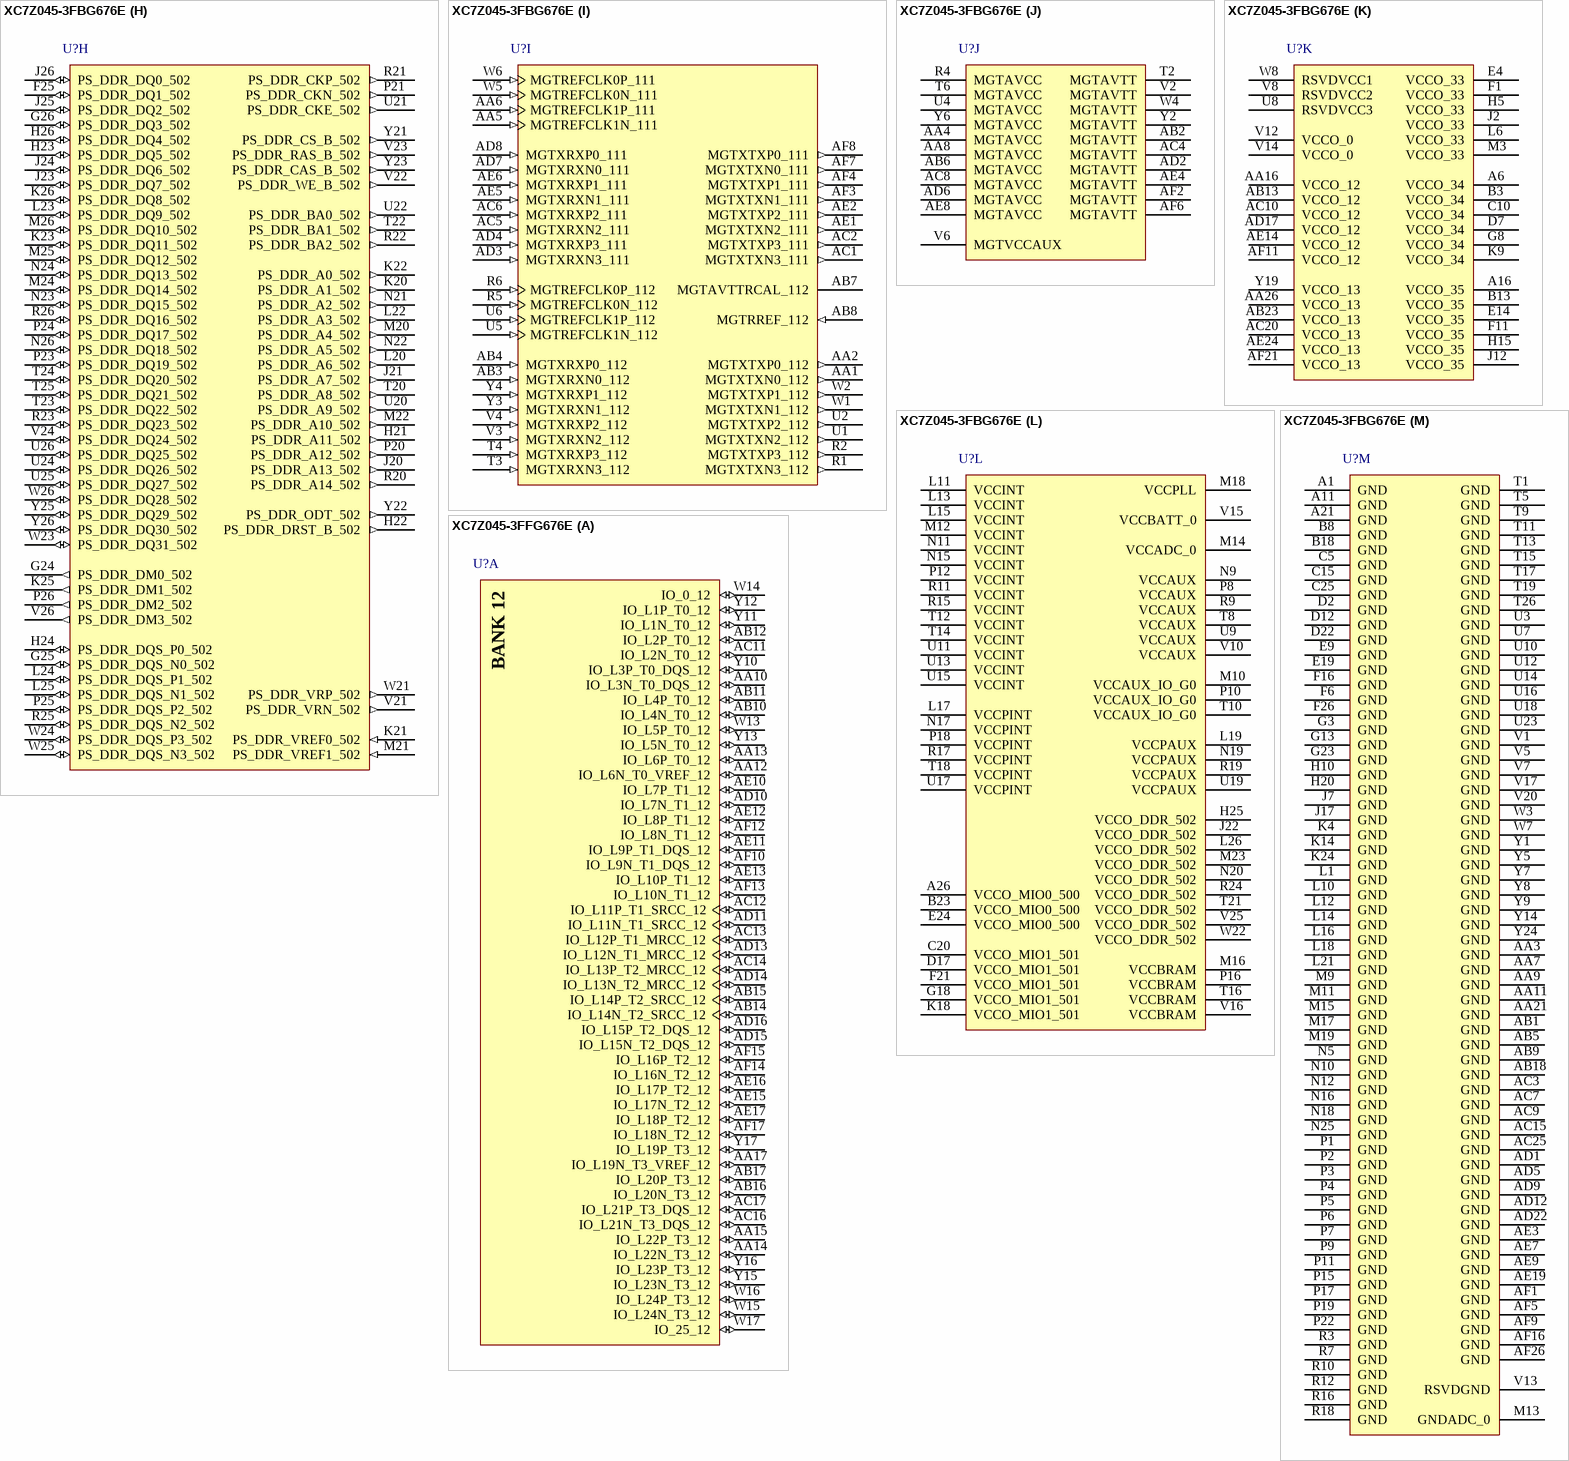
[diagram p89: symbols XC7Z045-3FBG676E to XC7Z045-3FFG676E]